# Altium integrated library Renesas Microcontroller H8SX.IntLib: 160 symbols (part 10 of 17)
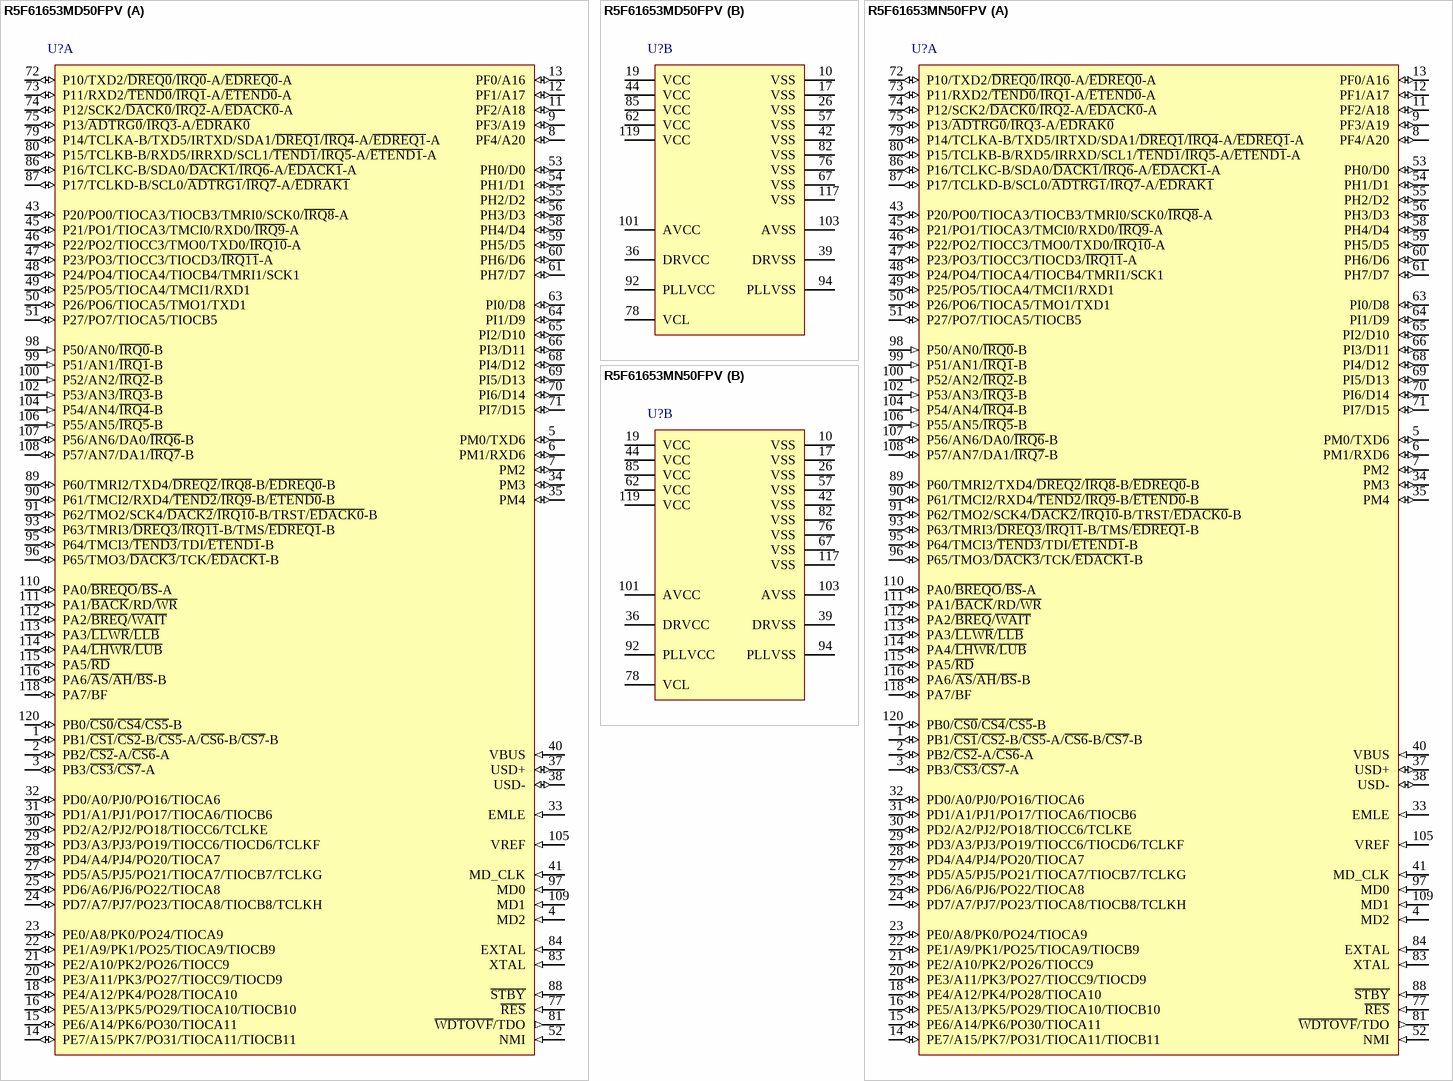
[diagram p99: symbols R5F61653MD50FPV to R5F61653MN50FPV]

## R5F61653MD50FPV
designator U?
Flash memory H8SX/1600 Series, 1658M Group MCU, 384K ROM, 40K RAM, FP-120B Pkg; Published: 28-Aug-2009; DatasheetVersion: Rev.2.00, Sep-2008; PackageVersion: Sep-2005; PackageReference: PLQP0120LA-A; Publisher: Altium Limited; PackageDescription: 120-Pin Plastic Low Profile QFP, 14 x 14 x 1.4 mm Body, 0.4 mm Pitch; Code_JEITA: P-LQFP120-14x14-0.40; ComponentLink1Description: Manufacturer Link; ComponentLink1URL: http://sg.renesas.com/fmwk.jsp?cnt=h8sx_family_landing.jsp&fp=/products/mpumcu/h8sx_family/; ComponentLink2Description: Datasheet; ComponentLink2URL: http://documentation.renesas.com/eng/products/mpumcu/rej09b0413_h8sx1658rhm.pdf; ComponentLink3Description: Packaging Specification; ComponentLink3URL: http://sg.renesas.com/media/products/common_info/package/pdf/ic/code/plqp0120la_a.pdf
footprint PLQP0120LA-A_N (Shrink QFP, 120-Leads, Body 14x14mm, Pitch 0.4mm, IPC Medium Density)
footprint PLQP0120LA-A_L (Shrink QFP, 120-Leads, Body 14x14mm, Pitch 0.4mm, IPC High Density)
footprint PLQP0120LA-A_M (Shrink QFP, 120-Leads, Body 14x14mm, Pitch 0.4mm, IPC Low Density)
part A pins: 1 PB1/~{CS1}/~{CS2}-B/~{CS5}-A/~{CS6}-B/~{CS7}-B (io), 2 PB2/~{CS2}-A/~{CS6}-A (io), 3 PB3/~{CS3}/~{CS7}-A (io), 4 MD2 (in), 5 PM0/TXD6 (io), 6 PM1/RXD6 (io), 7 PM2 (io), 8 PF4/A20 (io), 9 PF3/A19 (io), 11 PF2/A18 (io), 12 PF1/A17 (io), 13 PF0/A16 (io), 14 PE7/A15/PK7/PO31/TIOCA11/TIOCB11 (io), 15 PE6/A14/PK6/PO30/TIOCA11 (io), 16 PE5/A13/PK5/PO29/TIOCA10/TIOCB10 (io), 18 PE4/A12/PK4/PO28/TIOCA10 (io), 20 PE3/A11/PK3/PO27/TIOCC9/TIOCD9 (io), 21 PE2/A10/PK2/PO26/TIOCC9 (io), 22 PE1/A9/PK1/PO25/TIOCA9/TIOCB9 (io), 23 PE0/A8/PK0/PO24/TIOCA9 (io), 24 PD7/A7/PJ7/PO23/TIOCA8/TIOCB8/TCLKH (io), 25 PD6/A6/PJ6/PO22/TIOCA8 (io), 27 PD5/A5/PJ5/PO21/TIOCA7/TIOCB7/TCLKG (io), 28 PD4/A4/PJ4/PO20/TIOCA7 (io), 29 PD3/A3/PJ3/PO19/TIOCC6/TIOCD6/TCLKF (io), 30 PD2/A2/PJ2/PO18/TIOCC6/TCLKE (io), 31 PD1/A1/PJ1/PO17/TIOCA6/TIOCB6 (io), 32 PD0/A0/PJ0/PO16/TIOCA6 (io), 33 EMLE (in), 34 PM3 (io), 35 PM4 (io), 37 USD+ (io), 38 USD- (io), 40 VBUS (in), 41 MD_CLK (in), 43 P20/PO0/TIOCA3/TIOCB3/TMRI0/SCK0/~{IRQ8}-A (io), 45 P21/PO1/TIOCA3/TMCI0/RXD0/~{IRQ9}-A (io), 46 P22/PO2/TIOCC3/TMO0/TXD0/~{IRQ10}-A (io), 47 P23/PO3/TIOCC3/TIOCD3/~{IRQ11}-A (io), 48 P24/PO4/TIOCA4/TIOCB4/TMRI1/SCK1 (io), 49 P25/PO5/TIOCA4/TMCI1/RXD1 (io), 50 P26/PO6/TIOCA5/TMO1/TXD1 (io), 51 P27/PO7/TIOCA5/TIOCB5 (io), 52 NMI (in), 53 PH0/D0 (io), 54 PH1/D1 (io), 55 PH2/D2 (io), 56 PH3/D3 (io), 58 PH4/D4 (io), 59 PH5/D5 (io), 60 PH6/D6 (io), 61 PH7/D7 (io), 63 PI0/D8 (io), 64 PI1/D9 (io), 65 PI2/D10 (io), 66 PI3/D11 (io), 68 PI4/D12 (io), 69 PI5/D13 (io), 70 PI6/D14 (io), 71 PI7/D15 (io), 72 P10/TXD2/~{DREQ0}/~{IRQ0}-A/~{EDREQ0}-A (io), 73 P11/RXD2/~{TEND0}/~{IRQ1}-A/~{ETEND0}-A (io), 74 P12/SCK2/~{DACK0}/~{IRQ2}-A/~{EDACK0}-A (io), 75 P13/~{ADTRG0}/~{IRQ3}-A/~{EDRAK0} (io), 77 ~{RES} (in), 79 P14/TCLKA-B/TXD5/IRTXD/SDA1/~{DREQ1}/~{IRQ4}-A/~{EDREQ1}-A (io), 80 P15/TCLKB-B/RXD5/IRRXD/SCL1/~{TEND1}/~{IRQ5}-A/~{ETEND1}-A (io), 81 ~{WDTOVF}/TDO (out), 83 XTAL (in), 84 EXTAL (in), 86 P16/TCLKC-B/SDA0/~{DACK1}/~{IRQ6}-A/~{EDACK1}-A (io), 87 P17/TCLKD-B/SCL0/~{ADTRG1}/~{IRQ7}-A/~{EDRAK1} (io), 88 ~{STBY} (in), 89 P60/TMRI2/TXD4/~{DREQ2}/~{IRQ8}-B/~{EDREQ0}-B (io), 90 P61/TMCI2/RXD4/~{TEND2}/~{IRQ9}-B/~{ETEND0}-B (io), 91 P62/TMO2/SCK4/~{DACK2}/~{IRQ10}-B/TRST/~{EDACK0}-B (io), 93 P63/TMRI3/~{DREQ3}/~{IRQ11}-B/TMS/~{EDREQ1}-B (io), 95 P64/TMCI3/~{TEND3}/TDI/~{ETEND1}-B (io), 96 P65/TMO3/~{DACK3}/TCK/~{EDACK1}-B (io), 97 MD0 (in), 98 P50/AN0/~{IRQ0}-B (in), 99 P51/AN1/~{IRQ1}-B (in), 100 P52/AN2/~{IRQ2}-B (in), 102 P53/AN3/~{IRQ3}-B (in), 104 P54/AN4/~{IRQ4}-B (in), 105 VREF (in), 106 P55/AN5/~{IRQ5}-B (in), 107 P56/AN6/DA0/~{IRQ6}-B (io), 108 P57/AN7/DA1/~{IRQ7}-B (io), 109 MD1 (in), 110 PA0/~{BREQO}/~{BS}-A (io), 111 PA1/~{BACK}/RD/~{WR} (io), 112 PA2/~{BREQ}/~{WAIT} (io), 113 PA3/~{LLWR}/~{LLB} (io), 114 PA4/~{LHWR}/~{LUB} (io), 115 PA5/~{RD} (io), 116 PA6/~{AS}/~{AH}/~{BS}-B (io), 118 PA7/BF (io), 120 PB0/~{CS0}/~{CS4}/~{CS5}-B (io)
part B pins: 10 VSS (power), 17 VSS (power), 19 VCC (power), 26 VSS (power), 36 DRVCC (power), 39 DRVSS (power), 42 VSS (power), 44 VCC (power), 57 VSS (power), 62 VCC (power), 67 VSS (power), 76 VSS (power), 78 VCL, 82 VSS (power), 85 VCC (power), 92 PLLVCC (power), 94 PLLVSS (power), 101 AVCC (power), 103 AVSS (power), 117 VSS (power), 119 VCC (power)

## R5F61653MN50FPV
designator U?
Flash memory H8SX/1600 Series, 1658M Group MCU, 384K ROM, 40K RAM, FP-120B Pkg; Published: 28-Aug-2009; DatasheetVersion: Rev.2.00, Sep-2008; PackageVersion: Sep-2005; PackageReference: PLQP0120LA-A; Publisher: Altium Limited; PackageDescription: 120-Pin Plastic Low Profile QFP, 14 x 14 x 1.4 mm Body, 0.4 mm Pitch; Code_JEITA: P-LQFP120-14x14-0.40; ComponentLink1Description: Manufacturer Link; ComponentLink1URL: http://sg.renesas.com/fmwk.jsp?cnt=h8sx_family_landing.jsp&fp=/products/mpumcu/h8sx_family/; ComponentLink2Description: Datasheet; ComponentLink2URL: http://documentation.renesas.com/eng/products/mpumcu/rej09b0413_h8sx1658rhm.pdf; ComponentLink3Description: Packaging Specification; ComponentLink3URL: http://sg.renesas.com/media/products/common_info/package/pdf/ic/code/plqp0120la_a.pdf
footprint PLQP0120LA-A_N (Shrink QFP, 120-Leads, Body 14x14mm, Pitch 0.4mm, IPC Medium Density)
footprint PLQP0120LA-A_L (Shrink QFP, 120-Leads, Body 14x14mm, Pitch 0.4mm, IPC High Density)
footprint PLQP0120LA-A_M (Shrink QFP, 120-Leads, Body 14x14mm, Pitch 0.4mm, IPC Low Density)
part A pins: 1 PB1/~{CS1}/~{CS2}-B/~{CS5}-A/~{CS6}-B/~{CS7}-B (io), 2 PB2/~{CS2}-A/~{CS6}-A (io), 3 PB3/~{CS3}/~{CS7}-A (io), 4 MD2 (in), 5 PM0/TXD6 (io), 6 PM1/RXD6 (io), 7 PM2 (io), 8 PF4/A20 (io), 9 PF3/A19 (io), 11 PF2/A18 (io), 12 PF1/A17 (io), 13 PF0/A16 (io), 14 PE7/A15/PK7/PO31/TIOCA11/TIOCB11 (io), 15 PE6/A14/PK6/PO30/TIOCA11 (io), 16 PE5/A13/PK5/PO29/TIOCA10/TIOCB10 (io), 18 PE4/A12/PK4/PO28/TIOCA10 (io), 20 PE3/A11/PK3/PO27/TIOCC9/TIOCD9 (io), 21 PE2/A10/PK2/PO26/TIOCC9 (io), 22 PE1/A9/PK1/PO25/TIOCA9/TIOCB9 (io), 23 PE0/A8/PK0/PO24/TIOCA9 (io), 24 PD7/A7/PJ7/PO23/TIOCA8/TIOCB8/TCLKH (io), 25 PD6/A6/PJ6/PO22/TIOCA8 (io), 27 PD5/A5/PJ5/PO21/TIOCA7/TIOCB7/TCLKG (io), 28 PD4/A4/PJ4/PO20/TIOCA7 (io), 29 PD3/A3/PJ3/PO19/TIOCC6/TIOCD6/TCLKF (io), 30 PD2/A2/PJ2/PO18/TIOCC6/TCLKE (io), 31 PD1/A1/PJ1/PO17/TIOCA6/TIOCB6 (io), 32 PD0/A0/PJ0/PO16/TIOCA6 (io), 33 EMLE (in), 34 PM3 (io), 35 PM4 (io), 37 USD+ (io), 38 USD- (io), 40 VBUS (in), 41 MD_CLK (in), 43 P20/PO0/TIOCA3/TIOCB3/TMRI0/SCK0/~{IRQ8}-A (io), 45 P21/PO1/TIOCA3/TMCI0/RXD0/~{IRQ9}-A (io), 46 P22/PO2/TIOCC3/TMO0/TXD0/~{IRQ10}-A (io), 47 P23/PO3/TIOCC3/TIOCD3/~{IRQ11}-A (io), 48 P24/PO4/TIOCA4/TIOCB4/TMRI1/SCK1 (io), 49 P25/PO5/TIOCA4/TMCI1/RXD1 (io), 50 P26/PO6/TIOCA5/TMO1/TXD1 (io), 51 P27/PO7/TIOCA5/TIOCB5 (io), 52 NMI (in), 53 PH0/D0 (io), 54 PH1/D1 (io), 55 PH2/D2 (io), 56 PH3/D3 (io), 58 PH4/D4 (io), 59 PH5/D5 (io), 60 PH6/D6 (io), 61 PH7/D7 (io), 63 PI0/D8 (io), 64 PI1/D9 (io), 65 PI2/D10 (io), 66 PI3/D11 (io), 68 PI4/D12 (io), 69 PI5/D13 (io), 70 PI6/D14 (io), 71 PI7/D15 (io), 72 P10/TXD2/~{DREQ0}/~{IRQ0}-A/~{EDREQ0}-A (io), 73 P11/RXD2/~{TEND0}/~{IRQ1}-A/~{ETEND0}-A (io), 74 P12/SCK2/~{DACK0}/~{IRQ2}-A/~{EDACK0}-A (io), 75 P13/~{ADTRG0}/~{IRQ3}-A/~{EDRAK0} (io), 77 ~{RES} (in), 79 P14/TCLKA-B/TXD5/IRTXD/SDA1/~{DREQ1}/~{IRQ4}-A/~{EDREQ1}-A (io), 80 P15/TCLKB-B/RXD5/IRRXD/SCL1/~{TEND1}/~{IRQ5}-A/~{ETEND1}-A (io), 81 ~{WDTOVF}/TDO (out), 83 XTAL (in), 84 EXTAL (in), 86 P16/TCLKC-B/SDA0/~{DACK1}/~{IRQ6}-A/~{EDACK1}-A (io), 87 P17/TCLKD-B/SCL0/~{ADTRG1}/~{IRQ7}-A/~{EDRAK1} (io), 88 ~{STBY} (in), 89 P60/TMRI2/TXD4/~{DREQ2}/~{IRQ8}-B/~{EDREQ0}-B (io), 90 P61/TMCI2/RXD4/~{TEND2}/~{IRQ9}-B/~{ETEND0}-B (io), 91 P62/TMO2/SCK4/~{DACK2}/~{IRQ10}-B/TRST/~{EDACK0}-B (io), 93 P63/TMRI3/~{DREQ3}/~{IRQ11}-B/TMS/~{EDREQ1}-B (io), 95 P64/TMCI3/~{TEND3}/TDI/~{ETEND1}-B (io), 96 P65/TMO3/~{DACK3}/TCK/~{EDACK1}-B (io), 97 MD0 (in), 98 P50/AN0/~{IRQ0}-B (in), 99 P51/AN1/~{IRQ1}-B (in), 100 P52/AN2/~{IRQ2}-B (in), 102 P53/AN3/~{IRQ3}-B (in), 104 P54/AN4/~{IRQ4}-B (in), 105 VREF (in), 106 P55/AN5/~{IRQ5}-B (in), 107 P56/AN6/DA0/~{IRQ6}-B (io), 108 P57/AN7/DA1/~{IRQ7}-B (io), 109 MD1 (in), 110 PA0/~{BREQO}/~{BS}-A (io), 111 PA1/~{BACK}/RD/~{WR} (io), 112 PA2/~{BREQ}/~{WAIT} (io), 113 PA3/~{LLWR}/~{LLB} (io), 114 PA4/~{LHWR}/~{LUB} (io), 115 PA5/~{RD} (io), 116 PA6/~{AS}/~{AH}/~{BS}-B (io), 118 PA7/BF (io), 120 PB0/~{CS0}/~{CS4}/~{CS5}-B (io)
part B pins: 10 VSS (power), 17 VSS (power), 19 VCC (power), 26 VSS (power), 36 DRVCC (power), 39 DRVSS (power), 42 VSS (power), 44 VCC (power), 57 VSS (power), 62 VCC (power), 67 VSS (power), 76 VSS (power), 78 VCL, 82 VSS (power), 85 VCC (power), 92 PLLVCC (power), 94 PLLVSS (power), 101 AVCC (power), 103 AVSS (power), 117 VSS (power), 119 VCC (power)

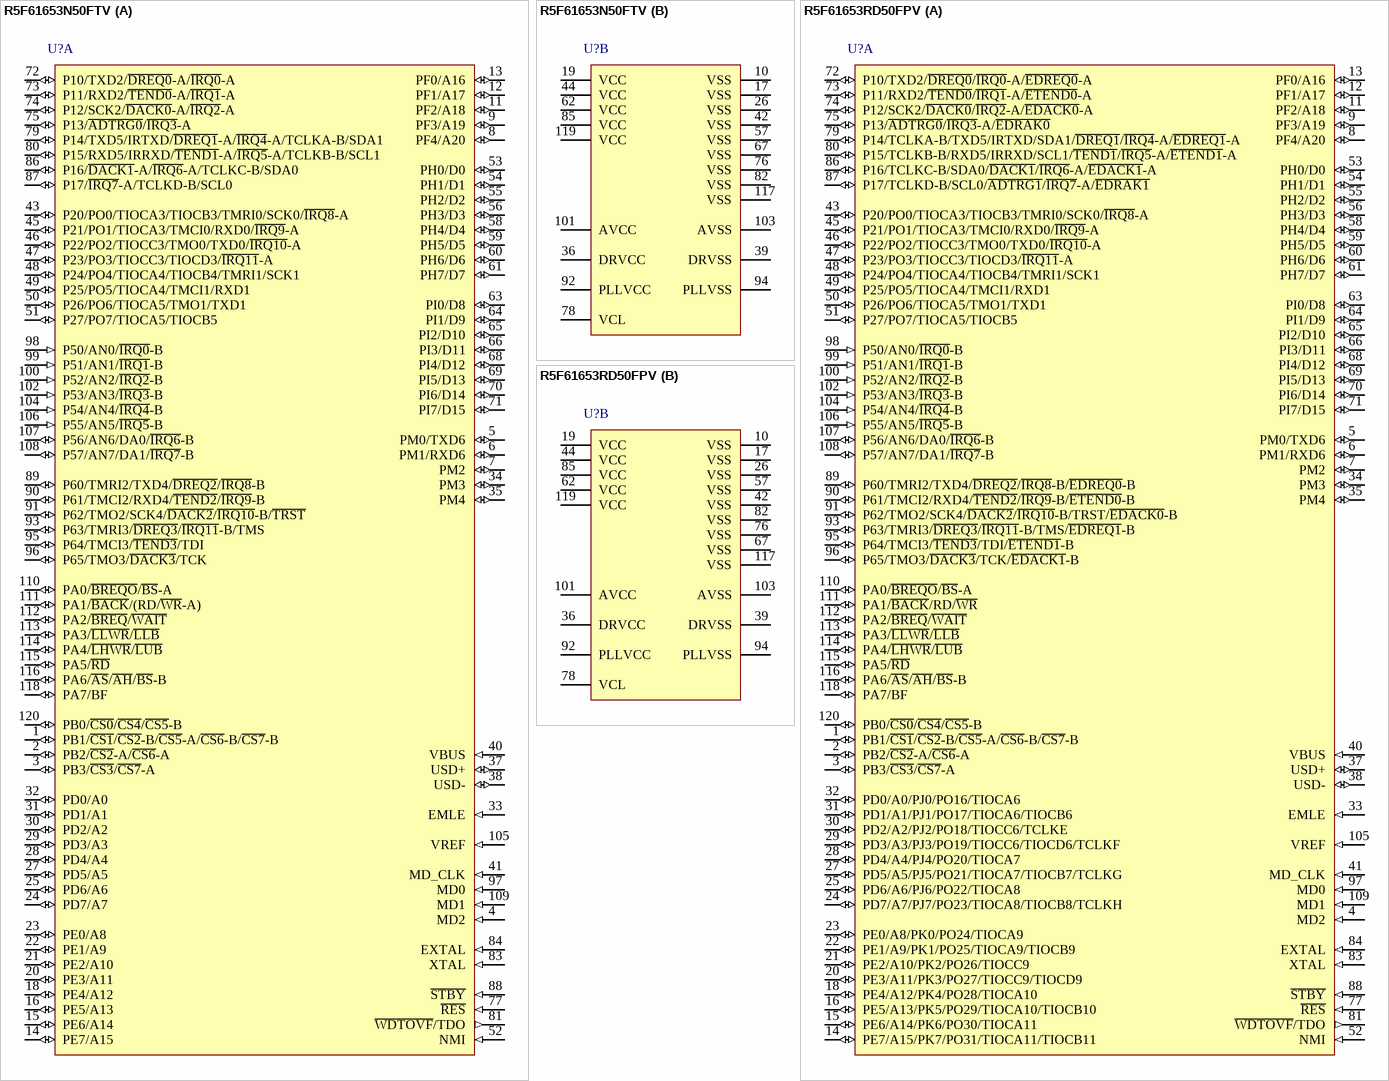
[diagram p50: symbols R5F61653N50FTV to R5F61653RD50FPV]

## R5F61653N50FTV
designator U?
Flash memory H8SX/1600 Series, 1653 Group MCU, 384K ROM, 40K RAM, TFP-120 Pkg; Published: 28-Aug-2009; DatasheetVersion: Rev.1.00, Sep-2005; PackageVersion: Sep-2005; PackageReference: PTQP0120LA-A; Publisher: Altium Limited; PackageDescription: 120-Pin Plastic Thin QFP, 14 x 14 x 1.0 mm Body, 0.4 mm Pitch; Code_JEITA: P-TQFP120-14x14-0.40; ComponentLink1Description: Manufacturer Link; ComponentLink1URL: http://sg.renesas.com/fmwk.jsp?cnt=h8sx_family_landing.jsp&fp=/products/mpumcu/h8sx_family/; ComponentLink2Description: Datasheet; ComponentLink2URL: http://documentation.renesas.com/eng/products/mpumcu/rej09b0219_h8sx1653hm.pdf; ComponentLink3Description: Packaging Specification; ComponentLink3URL: http://sg.renesas.com/media/products/common_info/package/pdf/ic/code/ptqp0120la_a.pdf
footprint PTQP0120LA-A_N (Thin QFP, 120-Leads, Body 14x14mm, Pitch 0.4mm, IPC Medium Density)
footprint PTQP0120LA-A_L (Thin QFP, 120-Leads, Body 14x14mm, Pitch 0.4mm, IPC High Density)
footprint PTQP0120LA-A_M (Thin QFP, 120-Leads, Body 14x14mm, Pitch 0.4mm, IPC Low Density)
part A pins: 1 PB1/~{CS1}/~{CS2}-B/~{CS5}-A/~{CS6}-B/~{CS7}-B (io), 2 PB2/~{CS2}-A/~{CS6}-A (io), 3 PB3/~{CS3}/~{CS7}-A (io), 4 MD2 (in), 5 PM0/TXD6 (io), 6 PM1/RXD6 (io), 7 PM2 (io), 8 PF4/A20 (io), 9 PF3/A19 (io), 11 PF2/A18 (io), 12 PF1/A17 (io), 13 PF0/A16 (io), 14 PE7/A15 (io), 15 PE6/A14 (io), 16 PE5/A13 (io), 18 PE4/A12 (io), 20 PE3/A11 (io), 21 PE2/A10 (io), 22 PE1/A9 (io), 23 PE0/A8 (io), 24 PD7/A7 (io), 25 PD6/A6 (io), 27 PD5/A5 (io), 28 PD4/A4 (io), 29 PD3/A3 (io), 30 PD2/A2 (io), 31 PD1/A1 (io), 32 PD0/A0 (io), 33 EMLE (in), 34 PM3 (io), 35 PM4 (io), 37 USD+ (io), 38 USD- (io), 40 VBUS (in), 41 MD_CLK (in), 43 P20/PO0/TIOCA3/TIOCB3/TMRI0/SCK0/~{IRQ8}-A (io), 45 P21/PO1/TIOCA3/TMCI0/RXD0/~{IRQ9}-A (io), 46 P22/PO2/TIOCC3/TMO0/TXD0/~{IRQ10}-A (io), 47 P23/PO3/TIOCC3/TIOCD3/~{IRQ11}-A (io), 48 P24/PO4/TIOCA4/TIOCB4/TMRI1/SCK1 (io), 49 P25/PO5/TIOCA4/TMCI1/RXD1 (io), 50 P26/PO6/TIOCA5/TMO1/TXD1 (io), 51 P27/PO7/TIOCA5/TIOCB5 (io), 52 NMI (in), 53 PH0/D0 (io), 54 PH1/D1 (io), 55 PH2/D2 (io), 56 PH3/D3 (io), 58 PH4/D4 (io), 59 PH5/D5 (io), 60 PH6/D6 (io), 61 PH7/D7 (io), 63 PI0/D8 (io), 64 PI1/D9 (io), 65 PI2/D10 (io), 66 PI3/D11 (io), 68 PI4/D12 (io), 69 PI5/D13 (io), 70 PI6/D14 (io), 71 PI7/D15 (io), 72 P10/TXD2/~{DREQ0}-A/~{IRQ0}-A (io), 73 P11/RXD2/~{TEND0}-A/~{IRQ1}-A (io), 74 P12/SCK2/~{DACK0}-A/~{IRQ2}-A (io), 75 P13/~{ADTRG0}/~{IRQ3}-A (io), 77 ~{RES} (in), 79 P14/TXD5/IRTXD/~{DREQ1}-A/~{IRQ4}-A/TCLKA-B/SDA1 (io), 80 P15/RXD5/IRRXD/~{TEND1}-A/~{IRQ5}-A/TCLKB-B/SCL1 (io), 81 ~{WDTOVF}/TDO (out), 83 XTAL (in), 84 EXTAL (in), 86 P16/~{DACK1}-A/~{IRQ6}-A/TCLKC-B/SDA0 (io), 87 P17/~{IRQ7}-A/TCLKD-B/SCL0 (io), 88 ~{STBY} (in), 89 P60/TMRI2/TXD4/~{DREQ2}/~{IRQ8}-B (io), 90 P61/TMCI2/RXD4/~{TEND2}/~{IRQ9}-B (io), 91 P62/TMO2/SCK4/~{DACK2}/~{IRQ10}-B/~{TRST} (io), 93 P63/TMRI3/~{DREQ3}/~{IRQ11}-B/TMS (io), 95 P64/TMCI3/~{TEND3}/TDI (io), 96 P65/TMO3/~{DACK3}/TCK (io), 97 MD0 (in), 98 P50/AN0/~{IRQ0}-B (in), 99 P51/AN1/~{IRQ1}-B (in), 100 P52/AN2/~{IRQ2}-B (in), 102 P53/AN3/~{IRQ3}-B (in), 104 P54/AN4/~{IRQ4}-B (in), 105 VREF (in), 106 P55/AN5/~{IRQ5}-B (in), 107 P56/AN6/DA0/~{IRQ6}-B (io), 108 P57/AN7/DA1/~{IRQ7}-B (io), 109 MD1 (in), 110 PA0/~{BREQO}/~{BS}-A (io), 111 PA1/~{BACK}/(RD/~{WR}-A) (io), 112 PA2/~{BREQ}/~{WAIT} (io), 113 PA3/~{LLWR}/~{LLB} (io), 114 PA4/~{LHWR}/~{LUB} (io), 115 PA5/~{RD} (io), 116 PA6/~{AS}/~{AH}/~{BS}-B (io), 118 PA7/BF (io), 120 PB0/~{CS0}/~{CS4}/~{CS5}-B (io)
part B pins: 10 VSS (power), 17 VSS (power), 19 VCC (power), 26 VSS (power), 36 DRVCC (power), 39 DRVSS (power), 42 VSS (power), 44 VCC (power), 57 VSS (power), 62 VCC (power), 67 VSS (power), 76 VSS (power), 78 VCL, 82 VSS (power), 85 VCC (power), 92 PLLVCC (power), 94 PLLVSS (power), 101 AVCC (power), 103 AVSS (power), 117 VSS (power), 119 VCC (power)

## R5F61653RD50FPV
designator U?
Flash memory H8SX/1600 Series, 1658R Group MCU, 384K ROM, 40K RAM, FP-120B Pkg; Published: 28-Aug-2009; DatasheetVersion: Rev.2.00, Sep-2008; PackageVersion: Sep-2005; PackageReference: PLQP0120LA-A; Publisher: Altium Limited; PackageDescription: 120-Pin Plastic Low Profile QFP, 14 x 14 x 1.4 mm Body, 0.4 mm Pitch; Code_JEITA: P-LQFP120-14x14-0.40; ComponentLink1Description: Manufacturer Link; ComponentLink1URL: http://sg.renesas.com/fmwk.jsp?cnt=h8sx_family_landing.jsp&fp=/products/mpumcu/h8sx_family/; ComponentLink2Description: Datasheet; ComponentLink2URL: http://documentation.renesas.com/eng/products/mpumcu/rej09b0413_h8sx1658rhm.pdf; ComponentLink3Description: Packaging Specification; ComponentLink3URL: http://sg.renesas.com/media/products/common_info/package/pdf/ic/code/plqp0120la_a.pdf
footprint PLQP0120LA-A_N (Shrink QFP, 120-Leads, Body 14x14mm, Pitch 0.4mm, IPC Medium Density)
footprint PLQP0120LA-A_L (Shrink QFP, 120-Leads, Body 14x14mm, Pitch 0.4mm, IPC High Density)
footprint PLQP0120LA-A_M (Shrink QFP, 120-Leads, Body 14x14mm, Pitch 0.4mm, IPC Low Density)
part A pins: 1 PB1/~{CS1}/~{CS2}-B/~{CS5}-A/~{CS6}-B/~{CS7}-B (io), 2 PB2/~{CS2}-A/~{CS6}-A (io), 3 PB3/~{CS3}/~{CS7}-A (io), 4 MD2 (in), 5 PM0/TXD6 (io), 6 PM1/RXD6 (io), 7 PM2 (io), 8 PF4/A20 (io), 9 PF3/A19 (io), 11 PF2/A18 (io), 12 PF1/A17 (io), 13 PF0/A16 (io), 14 PE7/A15/PK7/PO31/TIOCA11/TIOCB11 (io), 15 PE6/A14/PK6/PO30/TIOCA11 (io), 16 PE5/A13/PK5/PO29/TIOCA10/TIOCB10 (io), 18 PE4/A12/PK4/PO28/TIOCA10 (io), 20 PE3/A11/PK3/PO27/TIOCC9/TIOCD9 (io), 21 PE2/A10/PK2/PO26/TIOCC9 (io), 22 PE1/A9/PK1/PO25/TIOCA9/TIOCB9 (io), 23 PE0/A8/PK0/PO24/TIOCA9 (io), 24 PD7/A7/PJ7/PO23/TIOCA8/TIOCB8/TCLKH (io), 25 PD6/A6/PJ6/PO22/TIOCA8 (io), 27 PD5/A5/PJ5/PO21/TIOCA7/TIOCB7/TCLKG (io), 28 PD4/A4/PJ4/PO20/TIOCA7 (io), 29 PD3/A3/PJ3/PO19/TIOCC6/TIOCD6/TCLKF (io), 30 PD2/A2/PJ2/PO18/TIOCC6/TCLKE (io), 31 PD1/A1/PJ1/PO17/TIOCA6/TIOCB6 (io), 32 PD0/A0/PJ0/PO16/TIOCA6 (io), 33 EMLE (in), 34 PM3 (io), 35 PM4 (io), 37 USD+ (io), 38 USD- (io), 40 VBUS (in), 41 MD_CLK (in), 43 P20/PO0/TIOCA3/TIOCB3/TMRI0/SCK0/~{IRQ8}-A (io), 45 P21/PO1/TIOCA3/TMCI0/RXD0/~{IRQ9}-A (io), 46 P22/PO2/TIOCC3/TMO0/TXD0/~{IRQ10}-A (io), 47 P23/PO3/TIOCC3/TIOCD3/~{IRQ11}-A (io), 48 P24/PO4/TIOCA4/TIOCB4/TMRI1/SCK1 (io), 49 P25/PO5/TIOCA4/TMCI1/RXD1 (io), 50 P26/PO6/TIOCA5/TMO1/TXD1 (io), 51 P27/PO7/TIOCA5/TIOCB5 (io), 52 NMI (in), 53 PH0/D0 (io), 54 PH1/D1 (io), 55 PH2/D2 (io), 56 PH3/D3 (io), 58 PH4/D4 (io), 59 PH5/D5 (io), 60 PH6/D6 (io), 61 PH7/D7 (io), 63 PI0/D8 (io), 64 PI1/D9 (io), 65 PI2/D10 (io), 66 PI3/D11 (io), 68 PI4/D12 (io), 69 PI5/D13 (io), 70 PI6/D14 (io), 71 PI7/D15 (io), 72 P10/TXD2/~{DREQ0}/~{IRQ0}-A/~{EDREQ0}-A (io), 73 P11/RXD2/~{TEND0}/~{IRQ1}-A/~{ETEND0}-A (io), 74 P12/SCK2/~{DACK0}/~{IRQ2}-A/~{EDACK0}-A (io), 75 P13/~{ADTRG0}/~{IRQ3}-A/~{EDRAK0} (io), 77 ~{RES} (in), 79 P14/TCLKA-B/TXD5/IRTXD/SDA1/~{DREQ1}/~{IRQ4}-A/~{EDREQ1}-A (io), 80 P15/TCLKB-B/RXD5/IRRXD/SCL1/~{TEND1}/~{IRQ5}-A/~{ETEND1}-A (io), 81 ~{WDTOVF}/TDO (out), 83 XTAL (in), 84 EXTAL (in), 86 P16/TCLKC-B/SDA0/~{DACK1}/~{IRQ6}-A/~{EDACK1}-A (io), 87 P17/TCLKD-B/SCL0/~{ADTRG1}/~{IRQ7}-A/~{EDRAK1} (io), 88 ~{STBY} (in), 89 P60/TMRI2/TXD4/~{DREQ2}/~{IRQ8}-B/~{EDREQ0}-B (io), 90 P61/TMCI2/RXD4/~{TEND2}/~{IRQ9}-B/~{ETEND0}-B (io), 91 P62/TMO2/SCK4/~{DACK2}/~{IRQ10}-B/TRST/~{EDACK0}-B (io), 93 P63/TMRI3/~{DREQ3}/~{IRQ11}-B/TMS/~{EDREQ1}-B (io), 95 P64/TMCI3/~{TEND3}/TDI/~{ETEND1}-B (io), 96 P65/TMO3/~{DACK3}/TCK/~{EDACK1}-B (io), 97 MD0 (in), 98 P50/AN0/~{IRQ0}-B (in), 99 P51/AN1/~{IRQ1}-B (in), 100 P52/AN2/~{IRQ2}-B (in), 102 P53/AN3/~{IRQ3}-B (in), 104 P54/AN4/~{IRQ4}-B (in), 105 VREF (in), 106 P55/AN5/~{IRQ5}-B (in), 107 P56/AN6/DA0/~{IRQ6}-B (io), 108 P57/AN7/DA1/~{IRQ7}-B (io), 109 MD1 (in), 110 PA0/~{BREQO}/~{BS}-A (io), 111 PA1/~{BACK}/RD/~{WR} (io), 112 PA2/~{BREQ}/~{WAIT} (io), 113 PA3/~{LLWR}/~{LLB} (io), 114 PA4/~{LHWR}/~{LUB} (io), 115 PA5/~{RD} (io), 116 PA6/~{AS}/~{AH}/~{BS}-B (io), 118 PA7/BF (io), 120 PB0/~{CS0}/~{CS4}/~{CS5}-B (io)
part B pins: 10 VSS (power), 17 VSS (power), 19 VCC (power), 26 VSS (power), 36 DRVCC (power), 39 DRVSS (power), 42 VSS (power), 44 VCC (power), 57 VSS (power), 62 VCC (power), 67 VSS (power), 76 VSS (power), 78 VCL, 82 VSS (power), 85 VCC (power), 92 PLLVCC (power), 94 PLLVSS (power), 101 AVCC (power), 103 AVSS (power), 117 VSS (power), 119 VCC (power)

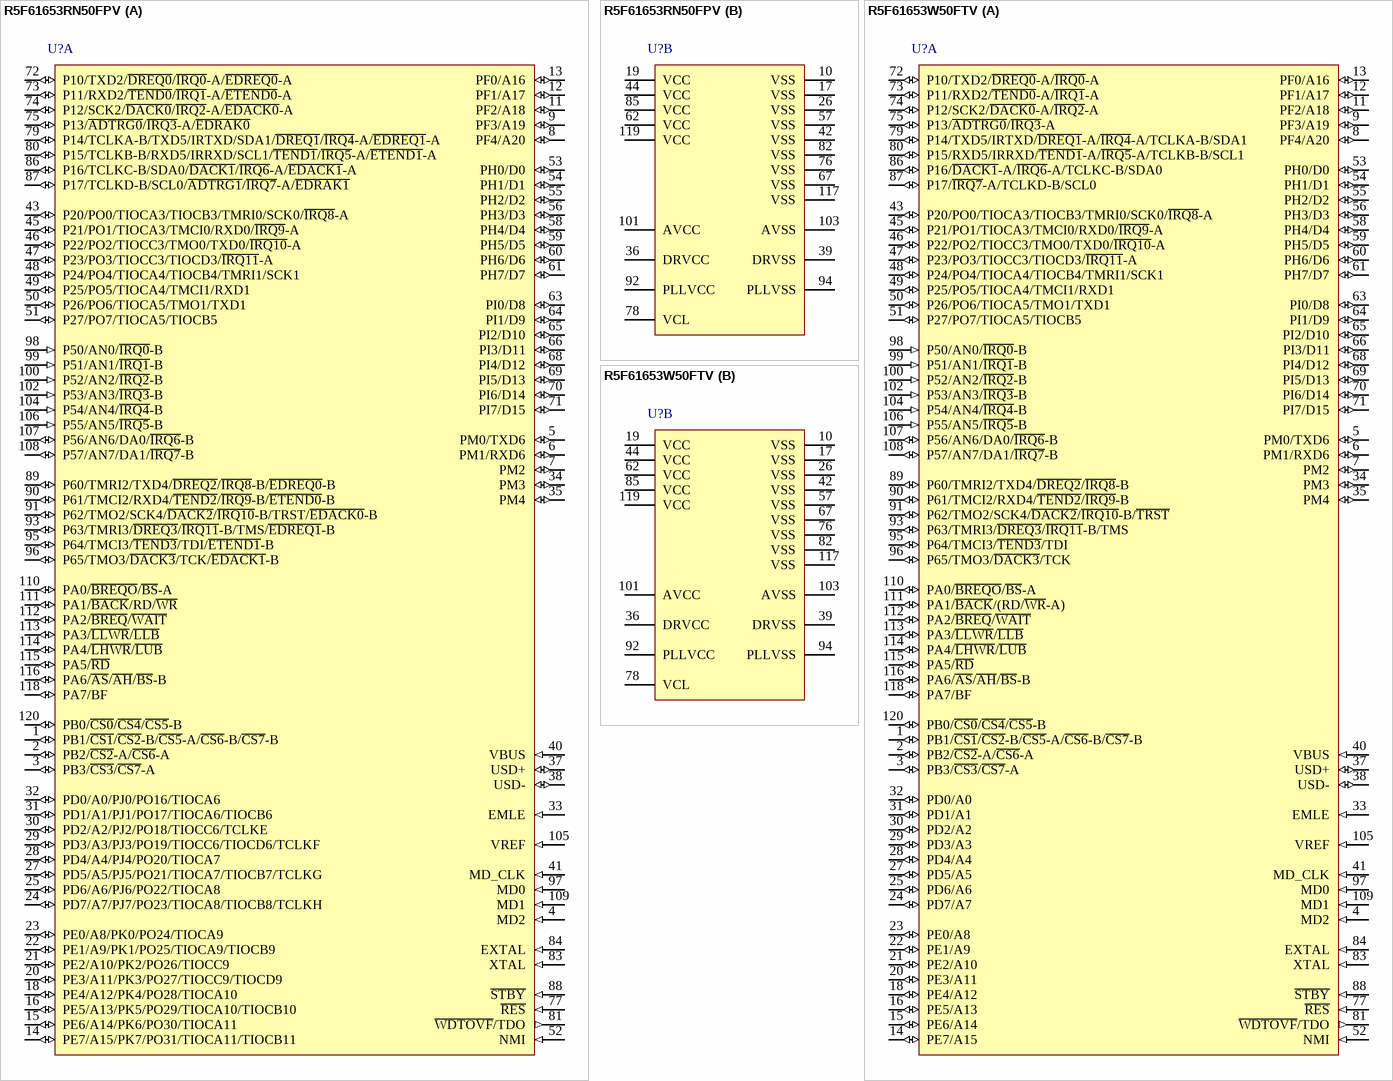
[diagram p51: symbols R5F61653RN50FPV to R5F61653W50FTV]

## R5F61653RN50FPV
designator U?
Flash memory H8SX/1600 Series, 1658R Group MCU, 384K ROM, 40K RAM, FP-120B Pkg; Published: 28-Aug-2009; DatasheetVersion: Rev.2.00, Sep-2008; PackageVersion: Sep-2005; PackageReference: PLQP0120LA-A; Publisher: Altium Limited; PackageDescription: 120-Pin Plastic Low Profile QFP, 14 x 14 x 1.4 mm Body, 0.4 mm Pitch; Supplier 1: Digi-Key; Supplier Part Number 1: R5F61653RN50FPV-ND; Code_JEITA: P-LQFP120-14x14-0.40; ComponentLink1Description: Manufacturer Link; ComponentLink1URL: http://sg.renesas.com/fmwk.jsp?cnt=h8sx_family_landing.jsp&fp=/products/mpumcu/h8sx_family/; ComponentLink2Description: Datasheet; ComponentLink2URL: http://documentation.renesas.com/eng/products/mpumcu/rej09b0413_h8sx1658rhm.pdf; ComponentLink3Description: Packaging Specification; ComponentLink3URL: http://sg.renesas.com/media/products/common_info/package/pdf/ic/code/plqp0120la_a.pdf
footprint PLQP0120LA-A_N (Shrink QFP, 120-Leads, Body 14x14mm, Pitch 0.4mm, IPC Medium Density)
footprint PLQP0120LA-A_L (Shrink QFP, 120-Leads, Body 14x14mm, Pitch 0.4mm, IPC High Density)
footprint PLQP0120LA-A_M (Shrink QFP, 120-Leads, Body 14x14mm, Pitch 0.4mm, IPC Low Density)
part A pins: 1 PB1/~{CS1}/~{CS2}-B/~{CS5}-A/~{CS6}-B/~{CS7}-B (io), 2 PB2/~{CS2}-A/~{CS6}-A (io), 3 PB3/~{CS3}/~{CS7}-A (io), 4 MD2 (in), 5 PM0/TXD6 (io), 6 PM1/RXD6 (io), 7 PM2 (io), 8 PF4/A20 (io), 9 PF3/A19 (io), 11 PF2/A18 (io), 12 PF1/A17 (io), 13 PF0/A16 (io), 14 PE7/A15/PK7/PO31/TIOCA11/TIOCB11 (io), 15 PE6/A14/PK6/PO30/TIOCA11 (io), 16 PE5/A13/PK5/PO29/TIOCA10/TIOCB10 (io), 18 PE4/A12/PK4/PO28/TIOCA10 (io), 20 PE3/A11/PK3/PO27/TIOCC9/TIOCD9 (io), 21 PE2/A10/PK2/PO26/TIOCC9 (io), 22 PE1/A9/PK1/PO25/TIOCA9/TIOCB9 (io), 23 PE0/A8/PK0/PO24/TIOCA9 (io), 24 PD7/A7/PJ7/PO23/TIOCA8/TIOCB8/TCLKH (io), 25 PD6/A6/PJ6/PO22/TIOCA8 (io), 27 PD5/A5/PJ5/PO21/TIOCA7/TIOCB7/TCLKG (io), 28 PD4/A4/PJ4/PO20/TIOCA7 (io), 29 PD3/A3/PJ3/PO19/TIOCC6/TIOCD6/TCLKF (io), 30 PD2/A2/PJ2/PO18/TIOCC6/TCLKE (io), 31 PD1/A1/PJ1/PO17/TIOCA6/TIOCB6 (io), 32 PD0/A0/PJ0/PO16/TIOCA6 (io), 33 EMLE (in), 34 PM3 (io), 35 PM4 (io), 37 USD+ (io), 38 USD- (io), 40 VBUS (in), 41 MD_CLK (in), 43 P20/PO0/TIOCA3/TIOCB3/TMRI0/SCK0/~{IRQ8}-A (io), 45 P21/PO1/TIOCA3/TMCI0/RXD0/~{IRQ9}-A (io), 46 P22/PO2/TIOCC3/TMO0/TXD0/~{IRQ10}-A (io), 47 P23/PO3/TIOCC3/TIOCD3/~{IRQ11}-A (io), 48 P24/PO4/TIOCA4/TIOCB4/TMRI1/SCK1 (io), 49 P25/PO5/TIOCA4/TMCI1/RXD1 (io), 50 P26/PO6/TIOCA5/TMO1/TXD1 (io), 51 P27/PO7/TIOCA5/TIOCB5 (io), 52 NMI (in), 53 PH0/D0 (io), 54 PH1/D1 (io), 55 PH2/D2 (io), 56 PH3/D3 (io), 58 PH4/D4 (io), 59 PH5/D5 (io), 60 PH6/D6 (io), 61 PH7/D7 (io), 63 PI0/D8 (io), 64 PI1/D9 (io), 65 PI2/D10 (io), 66 PI3/D11 (io), 68 PI4/D12 (io), 69 PI5/D13 (io), 70 PI6/D14 (io), 71 PI7/D15 (io), 72 P10/TXD2/~{DREQ0}/~{IRQ0}-A/~{EDREQ0}-A (io), 73 P11/RXD2/~{TEND0}/~{IRQ1}-A/~{ETEND0}-A (io), 74 P12/SCK2/~{DACK0}/~{IRQ2}-A/~{EDACK0}-A (io), 75 P13/~{ADTRG0}/~{IRQ3}-A/~{EDRAK0} (io), 77 ~{RES} (in), 79 P14/TCLKA-B/TXD5/IRTXD/SDA1/~{DREQ1}/~{IRQ4}-A/~{EDREQ1}-A (io), 80 P15/TCLKB-B/RXD5/IRRXD/SCL1/~{TEND1}/~{IRQ5}-A/~{ETEND1}-A (io), 81 ~{WDTOVF}/TDO (out), 83 XTAL (in), 84 EXTAL (in), 86 P16/TCLKC-B/SDA0/~{DACK1}/~{IRQ6}-A/~{EDACK1}-A (io), 87 P17/TCLKD-B/SCL0/~{ADTRG1}/~{IRQ7}-A/~{EDRAK1} (io), 88 ~{STBY} (in), 89 P60/TMRI2/TXD4/~{DREQ2}/~{IRQ8}-B/~{EDREQ0}-B (io), 90 P61/TMCI2/RXD4/~{TEND2}/~{IRQ9}-B/~{ETEND0}-B (io), 91 P62/TMO2/SCK4/~{DACK2}/~{IRQ10}-B/TRST/~{EDACK0}-B (io), 93 P63/TMRI3/~{DREQ3}/~{IRQ11}-B/TMS/~{EDREQ1}-B (io), 95 P64/TMCI3/~{TEND3}/TDI/~{ETEND1}-B (io), 96 P65/TMO3/~{DACK3}/TCK/~{EDACK1}-B (io), 97 MD0 (in), 98 P50/AN0/~{IRQ0}-B (in), 99 P51/AN1/~{IRQ1}-B (in), 100 P52/AN2/~{IRQ2}-B (in), 102 P53/AN3/~{IRQ3}-B (in), 104 P54/AN4/~{IRQ4}-B (in), 105 VREF (in), 106 P55/AN5/~{IRQ5}-B (in), 107 P56/AN6/DA0/~{IRQ6}-B (io), 108 P57/AN7/DA1/~{IRQ7}-B (io), 109 MD1 (in), 110 PA0/~{BREQO}/~{BS}-A (io), 111 PA1/~{BACK}/RD/~{WR} (io), 112 PA2/~{BREQ}/~{WAIT} (io), 113 PA3/~{LLWR}/~{LLB} (io), 114 PA4/~{LHWR}/~{LUB} (io), 115 PA5/~{RD} (io), 116 PA6/~{AS}/~{AH}/~{BS}-B (io), 118 PA7/BF (io), 120 PB0/~{CS0}/~{CS4}/~{CS5}-B (io)
part B pins: 10 VSS (power), 17 VSS (power), 19 VCC (power), 26 VSS (power), 36 DRVCC (power), 39 DRVSS (power), 42 VSS (power), 44 VCC (power), 57 VSS (power), 62 VCC (power), 67 VSS (power), 76 VSS (power), 78 VCL, 82 VSS (power), 85 VCC (power), 92 PLLVCC (power), 94 PLLVSS (power), 101 AVCC (power), 103 AVSS (power), 117 VSS (power), 119 VCC (power)

## R5F61653W50FTV
designator U?
Flash memory H8SX/1600 Series, 1653 Group MCU, 384K ROM, 40K RAM, TFP-120 Pkg; Published: 28-Aug-2009; DatasheetVersion: Rev.1.00, Sep-2005; PackageVersion: Sep-2005; PackageReference: PTQP0120LA-A; Publisher: Altium Limited; PackageDescription: 120-Pin Plastic Thin QFP, 14 x 14 x 1.0 mm Body, 0.4 mm Pitch; Code_JEITA: P-TQFP120-14x14-0.40; ComponentLink1Description: Manufacturer Link; ComponentLink1URL: http://sg.renesas.com/fmwk.jsp?cnt=h8sx_family_landing.jsp&fp=/products/mpumcu/h8sx_family/; ComponentLink2Description: Datasheet; ComponentLink2URL: http://documentation.renesas.com/eng/products/mpumcu/rej09b0219_h8sx1653hm.pdf; ComponentLink3Description: Packaging Specification; ComponentLink3URL: http://sg.renesas.com/media/products/common_info/package/pdf/ic/code/ptqp0120la_a.pdf
footprint PTQP0120LA-A_N (Thin QFP, 120-Leads, Body 14x14mm, Pitch 0.4mm, IPC Medium Density)
footprint PTQP0120LA-A_L (Thin QFP, 120-Leads, Body 14x14mm, Pitch 0.4mm, IPC High Density)
footprint PTQP0120LA-A_M (Thin QFP, 120-Leads, Body 14x14mm, Pitch 0.4mm, IPC Low Density)
part A pins: 1 PB1/~{CS1}/~{CS2}-B/~{CS5}-A/~{CS6}-B/~{CS7}-B (io), 2 PB2/~{CS2}-A/~{CS6}-A (io), 3 PB3/~{CS3}/~{CS7}-A (io), 4 MD2 (in), 5 PM0/TXD6 (io), 6 PM1/RXD6 (io), 7 PM2 (io), 8 PF4/A20 (io), 9 PF3/A19 (io), 11 PF2/A18 (io), 12 PF1/A17 (io), 13 PF0/A16 (io), 14 PE7/A15 (io), 15 PE6/A14 (io), 16 PE5/A13 (io), 18 PE4/A12 (io), 20 PE3/A11 (io), 21 PE2/A10 (io), 22 PE1/A9 (io), 23 PE0/A8 (io), 24 PD7/A7 (io), 25 PD6/A6 (io), 27 PD5/A5 (io), 28 PD4/A4 (io), 29 PD3/A3 (io), 30 PD2/A2 (io), 31 PD1/A1 (io), 32 PD0/A0 (io), 33 EMLE (in), 34 PM3 (io), 35 PM4 (io), 37 USD+ (io), 38 USD- (io), 40 VBUS (in), 41 MD_CLK (in), 43 P20/PO0/TIOCA3/TIOCB3/TMRI0/SCK0/~{IRQ8}-A (io), 45 P21/PO1/TIOCA3/TMCI0/RXD0/~{IRQ9}-A (io), 46 P22/PO2/TIOCC3/TMO0/TXD0/~{IRQ10}-A (io), 47 P23/PO3/TIOCC3/TIOCD3/~{IRQ11}-A (io), 48 P24/PO4/TIOCA4/TIOCB4/TMRI1/SCK1 (io), 49 P25/PO5/TIOCA4/TMCI1/RXD1 (io), 50 P26/PO6/TIOCA5/TMO1/TXD1 (io), 51 P27/PO7/TIOCA5/TIOCB5 (io), 52 NMI (in), 53 PH0/D0 (io), 54 PH1/D1 (io), 55 PH2/D2 (io), 56 PH3/D3 (io), 58 PH4/D4 (io), 59 PH5/D5 (io), 60 PH6/D6 (io), 61 PH7/D7 (io), 63 PI0/D8 (io), 64 PI1/D9 (io), 65 PI2/D10 (io), 66 PI3/D11 (io), 68 PI4/D12 (io), 69 PI5/D13 (io), 70 PI6/D14 (io), 71 PI7/D15 (io), 72 P10/TXD2/~{DREQ0}-A/~{IRQ0}-A (io), 73 P11/RXD2/~{TEND0}-A/~{IRQ1}-A (io), 74 P12/SCK2/~{DACK0}-A/~{IRQ2}-A (io), 75 P13/~{ADTRG0}/~{IRQ3}-A (io), 77 ~{RES} (in), 79 P14/TXD5/IRTXD/~{DREQ1}-A/~{IRQ4}-A/TCLKA-B/SDA1 (io), 80 P15/RXD5/IRRXD/~{TEND1}-A/~{IRQ5}-A/TCLKB-B/SCL1 (io), 81 ~{WDTOVF}/TDO (out), 83 XTAL (in), 84 EXTAL (in), 86 P16/~{DACK1}-A/~{IRQ6}-A/TCLKC-B/SDA0 (io), 87 P17/~{IRQ7}-A/TCLKD-B/SCL0 (io), 88 ~{STBY} (in), 89 P60/TMRI2/TXD4/~{DREQ2}/~{IRQ8}-B (io), 90 P61/TMCI2/RXD4/~{TEND2}/~{IRQ9}-B (io), 91 P62/TMO2/SCK4/~{DACK2}/~{IRQ10}-B/~{TRST} (io), 93 P63/TMRI3/~{DREQ3}/~{IRQ11}-B/TMS (io), 95 P64/TMCI3/~{TEND3}/TDI (io), 96 P65/TMO3/~{DACK3}/TCK (io), 97 MD0 (in), 98 P50/AN0/~{IRQ0}-B (in), 99 P51/AN1/~{IRQ1}-B (in), 100 P52/AN2/~{IRQ2}-B (in), 102 P53/AN3/~{IRQ3}-B (in), 104 P54/AN4/~{IRQ4}-B (in), 105 VREF (in), 106 P55/AN5/~{IRQ5}-B (in), 107 P56/AN6/DA0/~{IRQ6}-B (io), 108 P57/AN7/DA1/~{IRQ7}-B (io), 109 MD1 (in), 110 PA0/~{BREQO}/~{BS}-A (io), 111 PA1/~{BACK}/(RD/~{WR}-A) (io), 112 PA2/~{BREQ}/~{WAIT} (io), 113 PA3/~{LLWR}/~{LLB} (io), 114 PA4/~{LHWR}/~{LUB} (io), 115 PA5/~{RD} (io), 116 PA6/~{AS}/~{AH}/~{BS}-B (io), 118 PA7/BF (io), 120 PB0/~{CS0}/~{CS4}/~{CS5}-B (io)
part B pins: 10 VSS (power), 17 VSS (power), 19 VCC (power), 26 VSS (power), 36 DRVCC (power), 39 DRVSS (power), 42 VSS (power), 44 VCC (power), 57 VSS (power), 62 VCC (power), 67 VSS (power), 76 VSS (power), 78 VCL, 82 VSS (power), 85 VCC (power), 92 PLLVCC (power), 94 PLLVSS (power), 101 AVCC (power), 103 AVSS (power), 117 VSS (power), 119 VCC (power)

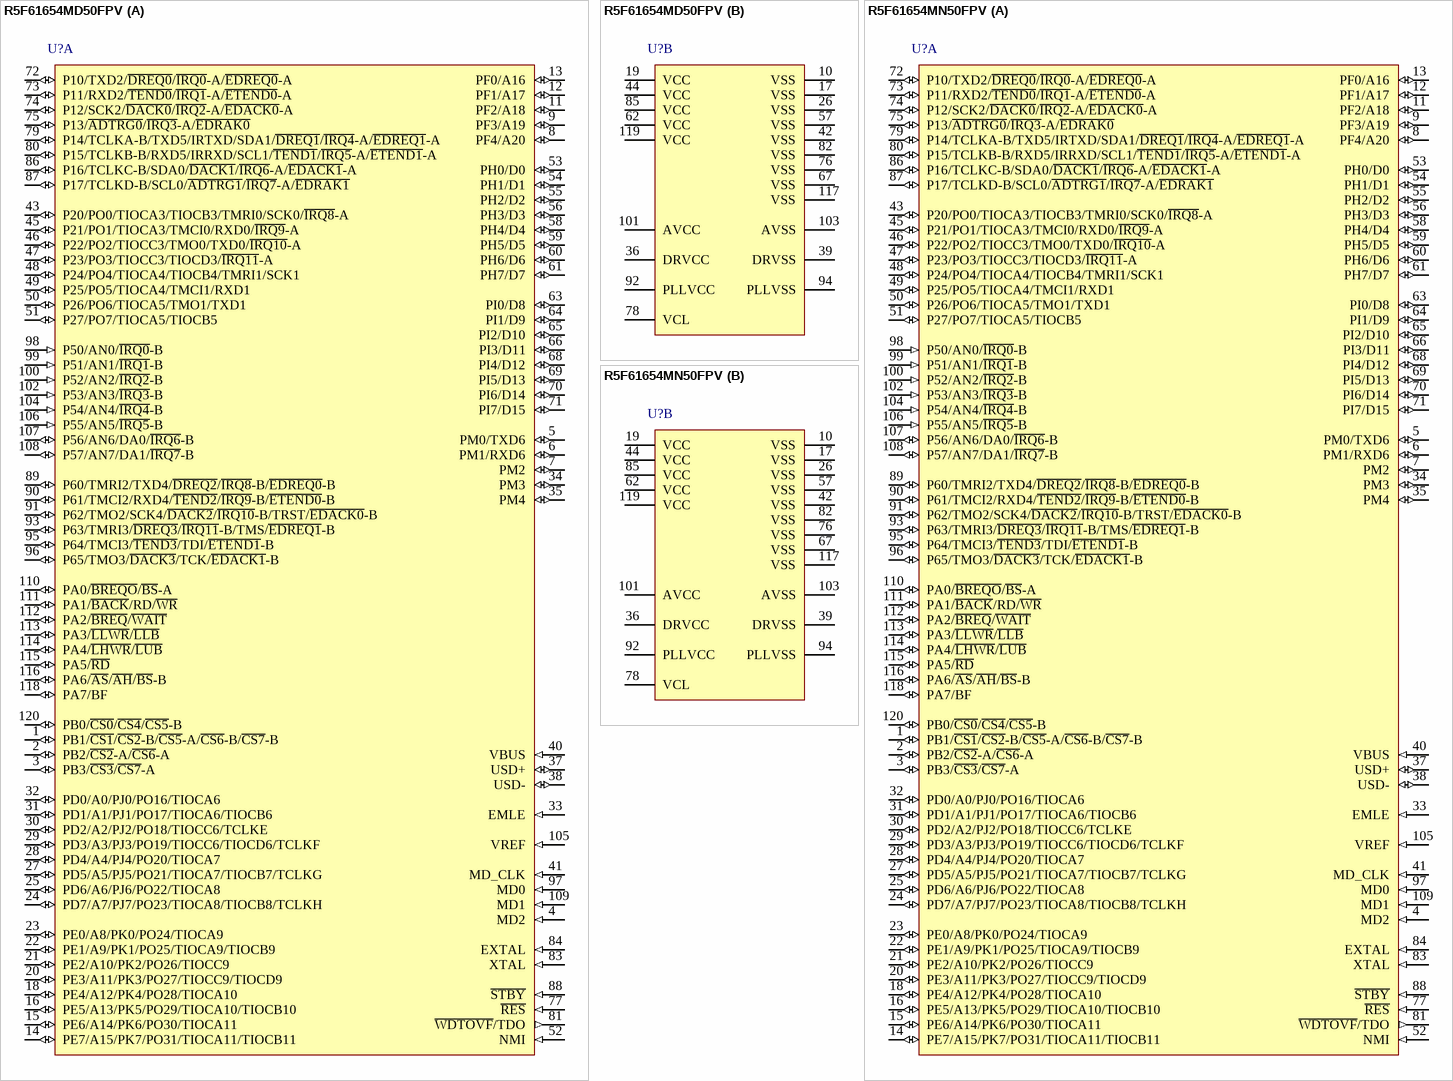
[diagram p52: symbols R5F61654MD50FPV to R5F61654MN50FPV]

## R5F61654MD50FPV
designator U?
Flash memory H8SX/1600 Series, 1658M Group MCU, 512K ROM, 40K RAM, FP-120B Pkg; Published: 28-Aug-2009; DatasheetVersion: Rev.2.00, Sep-2008; PackageVersion: Sep-2005; PackageReference: PLQP0120LA-A; Publisher: Altium Limited; PackageDescription: 120-Pin Plastic Low Profile QFP, 14 x 14 x 1.4 mm Body, 0.4 mm Pitch; Code_JEITA: P-LQFP120-14x14-0.40; ComponentLink1Description: Manufacturer Link; ComponentLink1URL: http://sg.renesas.com/fmwk.jsp?cnt=h8sx_family_landing.jsp&fp=/products/mpumcu/h8sx_family/; ComponentLink2Description: Datasheet; ComponentLink2URL: http://documentation.renesas.com/eng/products/mpumcu/rej09b0413_h8sx1658rhm.pdf; ComponentLink3Description: Packaging Specification; ComponentLink3URL: http://sg.renesas.com/media/products/common_info/package/pdf/ic/code/plqp0120la_a.pdf
footprint PLQP0120LA-A_N (Shrink QFP, 120-Leads, Body 14x14mm, Pitch 0.4mm, IPC Medium Density)
footprint PLQP0120LA-A_L (Shrink QFP, 120-Leads, Body 14x14mm, Pitch 0.4mm, IPC High Density)
footprint PLQP0120LA-A_M (Shrink QFP, 120-Leads, Body 14x14mm, Pitch 0.4mm, IPC Low Density)
part A pins: 1 PB1/~{CS1}/~{CS2}-B/~{CS5}-A/~{CS6}-B/~{CS7}-B (io), 2 PB2/~{CS2}-A/~{CS6}-A (io), 3 PB3/~{CS3}/~{CS7}-A (io), 4 MD2 (in), 5 PM0/TXD6 (io), 6 PM1/RXD6 (io), 7 PM2 (io), 8 PF4/A20 (io), 9 PF3/A19 (io), 11 PF2/A18 (io), 12 PF1/A17 (io), 13 PF0/A16 (io), 14 PE7/A15/PK7/PO31/TIOCA11/TIOCB11 (io), 15 PE6/A14/PK6/PO30/TIOCA11 (io), 16 PE5/A13/PK5/PO29/TIOCA10/TIOCB10 (io), 18 PE4/A12/PK4/PO28/TIOCA10 (io), 20 PE3/A11/PK3/PO27/TIOCC9/TIOCD9 (io), 21 PE2/A10/PK2/PO26/TIOCC9 (io), 22 PE1/A9/PK1/PO25/TIOCA9/TIOCB9 (io), 23 PE0/A8/PK0/PO24/TIOCA9 (io), 24 PD7/A7/PJ7/PO23/TIOCA8/TIOCB8/TCLKH (io), 25 PD6/A6/PJ6/PO22/TIOCA8 (io), 27 PD5/A5/PJ5/PO21/TIOCA7/TIOCB7/TCLKG (io), 28 PD4/A4/PJ4/PO20/TIOCA7 (io), 29 PD3/A3/PJ3/PO19/TIOCC6/TIOCD6/TCLKF (io), 30 PD2/A2/PJ2/PO18/TIOCC6/TCLKE (io), 31 PD1/A1/PJ1/PO17/TIOCA6/TIOCB6 (io), 32 PD0/A0/PJ0/PO16/TIOCA6 (io), 33 EMLE (in), 34 PM3 (io), 35 PM4 (io), 37 USD+ (io), 38 USD- (io), 40 VBUS (in), 41 MD_CLK (in), 43 P20/PO0/TIOCA3/TIOCB3/TMRI0/SCK0/~{IRQ8}-A (io), 45 P21/PO1/TIOCA3/TMCI0/RXD0/~{IRQ9}-A (io), 46 P22/PO2/TIOCC3/TMO0/TXD0/~{IRQ10}-A (io), 47 P23/PO3/TIOCC3/TIOCD3/~{IRQ11}-A (io), 48 P24/PO4/TIOCA4/TIOCB4/TMRI1/SCK1 (io), 49 P25/PO5/TIOCA4/TMCI1/RXD1 (io), 50 P26/PO6/TIOCA5/TMO1/TXD1 (io), 51 P27/PO7/TIOCA5/TIOCB5 (io), 52 NMI (in), 53 PH0/D0 (io), 54 PH1/D1 (io), 55 PH2/D2 (io), 56 PH3/D3 (io), 58 PH4/D4 (io), 59 PH5/D5 (io), 60 PH6/D6 (io), 61 PH7/D7 (io), 63 PI0/D8 (io), 64 PI1/D9 (io), 65 PI2/D10 (io), 66 PI3/D11 (io), 68 PI4/D12 (io), 69 PI5/D13 (io), 70 PI6/D14 (io), 71 PI7/D15 (io), 72 P10/TXD2/~{DREQ0}/~{IRQ0}-A/~{EDREQ0}-A (io), 73 P11/RXD2/~{TEND0}/~{IRQ1}-A/~{ETEND0}-A (io), 74 P12/SCK2/~{DACK0}/~{IRQ2}-A/~{EDACK0}-A (io), 75 P13/~{ADTRG0}/~{IRQ3}-A/~{EDRAK0} (io), 77 ~{RES} (in), 79 P14/TCLKA-B/TXD5/IRTXD/SDA1/~{DREQ1}/~{IRQ4}-A/~{EDREQ1}-A (io), 80 P15/TCLKB-B/RXD5/IRRXD/SCL1/~{TEND1}/~{IRQ5}-A/~{ETEND1}-A (io), 81 ~{WDTOVF}/TDO (out), 83 XTAL (in), 84 EXTAL (in), 86 P16/TCLKC-B/SDA0/~{DACK1}/~{IRQ6}-A/~{EDACK1}-A (io), 87 P17/TCLKD-B/SCL0/~{ADTRG1}/~{IRQ7}-A/~{EDRAK1} (io), 88 ~{STBY} (in), 89 P60/TMRI2/TXD4/~{DREQ2}/~{IRQ8}-B/~{EDREQ0}-B (io), 90 P61/TMCI2/RXD4/~{TEND2}/~{IRQ9}-B/~{ETEND0}-B (io), 91 P62/TMO2/SCK4/~{DACK2}/~{IRQ10}-B/TRST/~{EDACK0}-B (io), 93 P63/TMRI3/~{DREQ3}/~{IRQ11}-B/TMS/~{EDREQ1}-B (io), 95 P64/TMCI3/~{TEND3}/TDI/~{ETEND1}-B (io), 96 P65/TMO3/~{DACK3}/TCK/~{EDACK1}-B (io), 97 MD0 (in), 98 P50/AN0/~{IRQ0}-B (in), 99 P51/AN1/~{IRQ1}-B (in), 100 P52/AN2/~{IRQ2}-B (in), 102 P53/AN3/~{IRQ3}-B (in), 104 P54/AN4/~{IRQ4}-B (in), 105 VREF (in), 106 P55/AN5/~{IRQ5}-B (in), 107 P56/AN6/DA0/~{IRQ6}-B (io), 108 P57/AN7/DA1/~{IRQ7}-B (io), 109 MD1 (in), 110 PA0/~{BREQO}/~{BS}-A (io), 111 PA1/~{BACK}/RD/~{WR} (io), 112 PA2/~{BREQ}/~{WAIT} (io), 113 PA3/~{LLWR}/~{LLB} (io), 114 PA4/~{LHWR}/~{LUB} (io), 115 PA5/~{RD} (io), 116 PA6/~{AS}/~{AH}/~{BS}-B (io), 118 PA7/BF (io), 120 PB0/~{CS0}/~{CS4}/~{CS5}-B (io)
part B pins: 10 VSS (power), 17 VSS (power), 19 VCC (power), 26 VSS (power), 36 DRVCC (power), 39 DRVSS (power), 42 VSS (power), 44 VCC (power), 57 VSS (power), 62 VCC (power), 67 VSS (power), 76 VSS (power), 78 VCL, 82 VSS (power), 85 VCC (power), 92 PLLVCC (power), 94 PLLVSS (power), 101 AVCC (power), 103 AVSS (power), 117 VSS (power), 119 VCC (power)

## R5F61654MN50FPV
designator U?
Flash memory H8SX/1600 Series, 1658M Group MCU, 512K ROM, 40K RAM, FP-120B Pkg; Published: 28-Aug-2009; DatasheetVersion: Rev.2.00, Sep-2008; PackageVersion: Sep-2005; PackageReference: PLQP0120LA-A; Publisher: Altium Limited; PackageDescription: 120-Pin Plastic Low Profile QFP, 14 x 14 x 1.4 mm Body, 0.4 mm Pitch; Code_JEITA: P-LQFP120-14x14-0.40; ComponentLink1Description: Manufacturer Link; ComponentLink1URL: http://sg.renesas.com/fmwk.jsp?cnt=h8sx_family_landing.jsp&fp=/products/mpumcu/h8sx_family/; ComponentLink2Description: Datasheet; ComponentLink2URL: http://documentation.renesas.com/eng/products/mpumcu/rej09b0413_h8sx1658rhm.pdf; ComponentLink3Description: Packaging Specification; ComponentLink3URL: http://sg.renesas.com/media/products/common_info/package/pdf/ic/code/plqp0120la_a.pdf
footprint PLQP0120LA-A_N (Shrink QFP, 120-Leads, Body 14x14mm, Pitch 0.4mm, IPC Medium Density)
footprint PLQP0120LA-A_L (Shrink QFP, 120-Leads, Body 14x14mm, Pitch 0.4mm, IPC High Density)
footprint PLQP0120LA-A_M (Shrink QFP, 120-Leads, Body 14x14mm, Pitch 0.4mm, IPC Low Density)
part A pins: 1 PB1/~{CS1}/~{CS2}-B/~{CS5}-A/~{CS6}-B/~{CS7}-B (io), 2 PB2/~{CS2}-A/~{CS6}-A (io), 3 PB3/~{CS3}/~{CS7}-A (io), 4 MD2 (in), 5 PM0/TXD6 (io), 6 PM1/RXD6 (io), 7 PM2 (io), 8 PF4/A20 (io), 9 PF3/A19 (io), 11 PF2/A18 (io), 12 PF1/A17 (io), 13 PF0/A16 (io), 14 PE7/A15/PK7/PO31/TIOCA11/TIOCB11 (io), 15 PE6/A14/PK6/PO30/TIOCA11 (io), 16 PE5/A13/PK5/PO29/TIOCA10/TIOCB10 (io), 18 PE4/A12/PK4/PO28/TIOCA10 (io), 20 PE3/A11/PK3/PO27/TIOCC9/TIOCD9 (io), 21 PE2/A10/PK2/PO26/TIOCC9 (io), 22 PE1/A9/PK1/PO25/TIOCA9/TIOCB9 (io), 23 PE0/A8/PK0/PO24/TIOCA9 (io), 24 PD7/A7/PJ7/PO23/TIOCA8/TIOCB8/TCLKH (io), 25 PD6/A6/PJ6/PO22/TIOCA8 (io), 27 PD5/A5/PJ5/PO21/TIOCA7/TIOCB7/TCLKG (io), 28 PD4/A4/PJ4/PO20/TIOCA7 (io), 29 PD3/A3/PJ3/PO19/TIOCC6/TIOCD6/TCLKF (io), 30 PD2/A2/PJ2/PO18/TIOCC6/TCLKE (io), 31 PD1/A1/PJ1/PO17/TIOCA6/TIOCB6 (io), 32 PD0/A0/PJ0/PO16/TIOCA6 (io), 33 EMLE (in), 34 PM3 (io), 35 PM4 (io), 37 USD+ (io), 38 USD- (io), 40 VBUS (in), 41 MD_CLK (in), 43 P20/PO0/TIOCA3/TIOCB3/TMRI0/SCK0/~{IRQ8}-A (io), 45 P21/PO1/TIOCA3/TMCI0/RXD0/~{IRQ9}-A (io), 46 P22/PO2/TIOCC3/TMO0/TXD0/~{IRQ10}-A (io), 47 P23/PO3/TIOCC3/TIOCD3/~{IRQ11}-A (io), 48 P24/PO4/TIOCA4/TIOCB4/TMRI1/SCK1 (io), 49 P25/PO5/TIOCA4/TMCI1/RXD1 (io), 50 P26/PO6/TIOCA5/TMO1/TXD1 (io), 51 P27/PO7/TIOCA5/TIOCB5 (io), 52 NMI (in), 53 PH0/D0 (io), 54 PH1/D1 (io), 55 PH2/D2 (io), 56 PH3/D3 (io), 58 PH4/D4 (io), 59 PH5/D5 (io), 60 PH6/D6 (io), 61 PH7/D7 (io), 63 PI0/D8 (io), 64 PI1/D9 (io), 65 PI2/D10 (io), 66 PI3/D11 (io), 68 PI4/D12 (io), 69 PI5/D13 (io), 70 PI6/D14 (io), 71 PI7/D15 (io), 72 P10/TXD2/~{DREQ0}/~{IRQ0}-A/~{EDREQ0}-A (io), 73 P11/RXD2/~{TEND0}/~{IRQ1}-A/~{ETEND0}-A (io), 74 P12/SCK2/~{DACK0}/~{IRQ2}-A/~{EDACK0}-A (io), 75 P13/~{ADTRG0}/~{IRQ3}-A/~{EDRAK0} (io), 77 ~{RES} (in), 79 P14/TCLKA-B/TXD5/IRTXD/SDA1/~{DREQ1}/~{IRQ4}-A/~{EDREQ1}-A (io), 80 P15/TCLKB-B/RXD5/IRRXD/SCL1/~{TEND1}/~{IRQ5}-A/~{ETEND1}-A (io), 81 ~{WDTOVF}/TDO (out), 83 XTAL (in), 84 EXTAL (in), 86 P16/TCLKC-B/SDA0/~{DACK1}/~{IRQ6}-A/~{EDACK1}-A (io), 87 P17/TCLKD-B/SCL0/~{ADTRG1}/~{IRQ7}-A/~{EDRAK1} (io), 88 ~{STBY} (in), 89 P60/TMRI2/TXD4/~{DREQ2}/~{IRQ8}-B/~{EDREQ0}-B (io), 90 P61/TMCI2/RXD4/~{TEND2}/~{IRQ9}-B/~{ETEND0}-B (io), 91 P62/TMO2/SCK4/~{DACK2}/~{IRQ10}-B/TRST/~{EDACK0}-B (io), 93 P63/TMRI3/~{DREQ3}/~{IRQ11}-B/TMS/~{EDREQ1}-B (io), 95 P64/TMCI3/~{TEND3}/TDI/~{ETEND1}-B (io), 96 P65/TMO3/~{DACK3}/TCK/~{EDACK1}-B (io), 97 MD0 (in), 98 P50/AN0/~{IRQ0}-B (in), 99 P51/AN1/~{IRQ1}-B (in), 100 P52/AN2/~{IRQ2}-B (in), 102 P53/AN3/~{IRQ3}-B (in), 104 P54/AN4/~{IRQ4}-B (in), 105 VREF (in), 106 P55/AN5/~{IRQ5}-B (in), 107 P56/AN6/DA0/~{IRQ6}-B (io), 108 P57/AN7/DA1/~{IRQ7}-B (io), 109 MD1 (in), 110 PA0/~{BREQO}/~{BS}-A (io), 111 PA1/~{BACK}/RD/~{WR} (io), 112 PA2/~{BREQ}/~{WAIT} (io), 113 PA3/~{LLWR}/~{LLB} (io), 114 PA4/~{LHWR}/~{LUB} (io), 115 PA5/~{RD} (io), 116 PA6/~{AS}/~{AH}/~{BS}-B (io), 118 PA7/BF (io), 120 PB0/~{CS0}/~{CS4}/~{CS5}-B (io)
part B pins: 10 VSS (power), 17 VSS (power), 19 VCC (power), 26 VSS (power), 36 DRVCC (power), 39 DRVSS (power), 42 VSS (power), 44 VCC (power), 57 VSS (power), 62 VCC (power), 67 VSS (power), 76 VSS (power), 78 VCL, 82 VSS (power), 85 VCC (power), 92 PLLVCC (power), 94 PLLVSS (power), 101 AVCC (power), 103 AVSS (power), 117 VSS (power), 119 VCC (power)

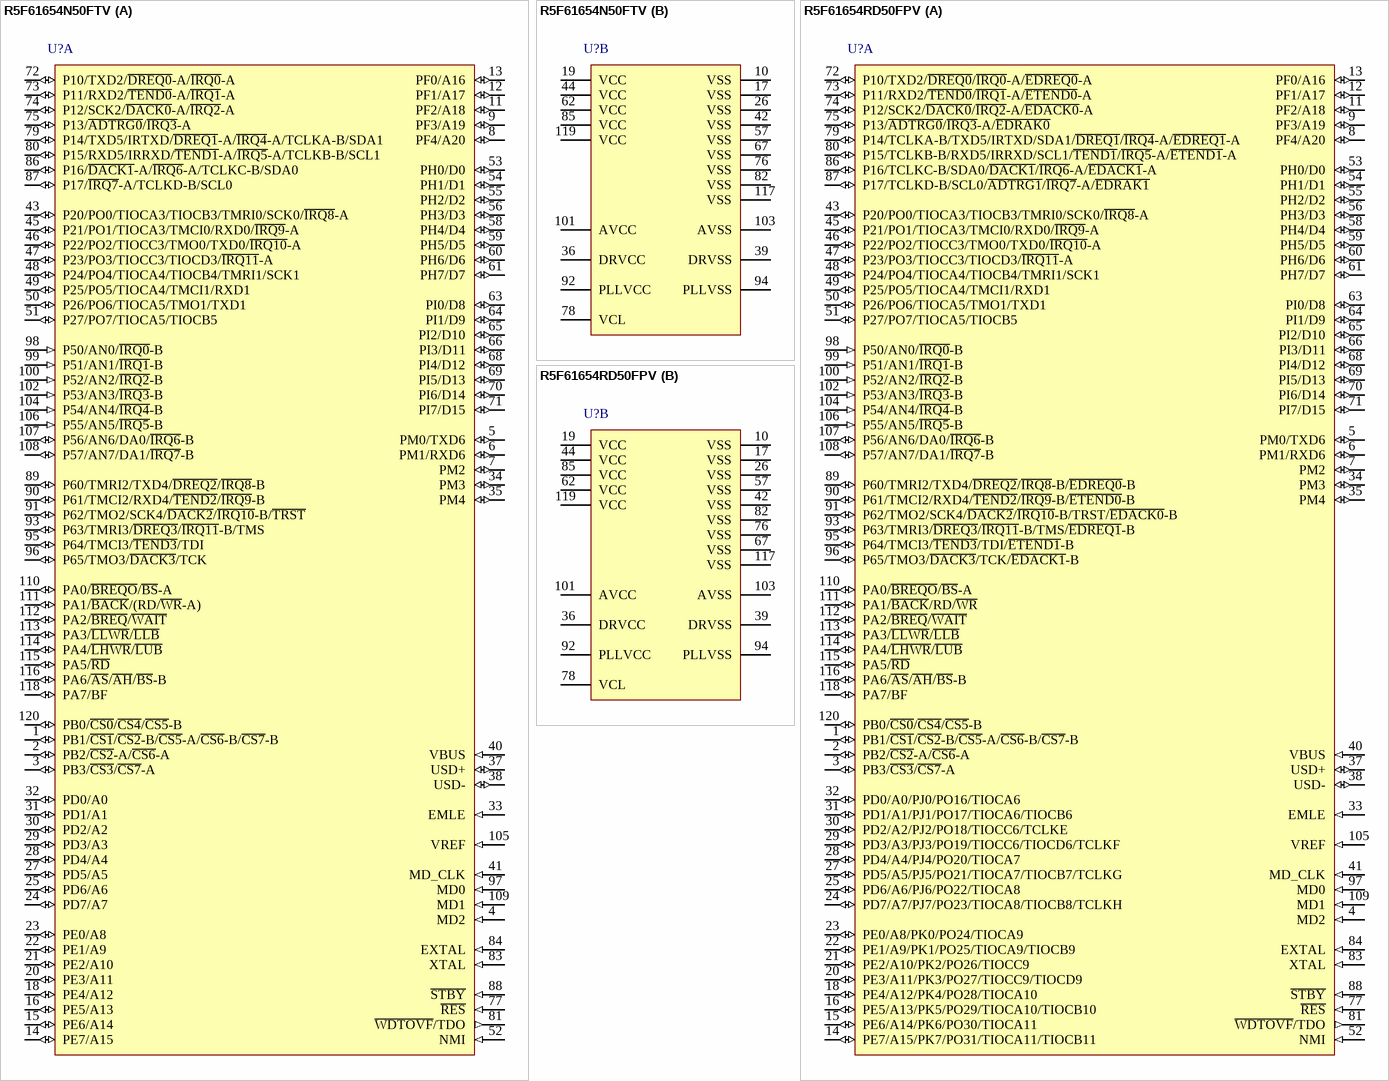
[diagram p53: symbols R5F61654N50FTV to R5F61654RD50FPV]

## R5F61654N50FTV
designator U?
Flash memory H8SX/1600 Series, 1653 Group MCU, 512K ROM, 40K RAM, TFP-120 Pkg; Published: 28-Aug-2009; DatasheetVersion: Rev.1.00, Sep-2005; PackageVersion: Sep-2005; PackageReference: PTQP0120LA-A; Publisher: Altium Limited; PackageDescription: 120-Pin Plastic Thin QFP, 14 x 14 x 1.0 mm Body, 0.4 mm Pitch; Code_JEITA: P-TQFP120-14x14-0.40; ComponentLink1Description: Manufacturer Link; ComponentLink1URL: http://sg.renesas.com/fmwk.jsp?cnt=h8sx_family_landing.jsp&fp=/products/mpumcu/h8sx_family/; ComponentLink2Description: Datasheet; ComponentLink2URL: http://documentation.renesas.com/eng/products/mpumcu/rej09b0219_h8sx1653hm.pdf; ComponentLink3Description: Packaging Specification; ComponentLink3URL: http://sg.renesas.com/media/products/common_info/package/pdf/ic/code/ptqp0120la_a.pdf
footprint PTQP0120LA-A_N (Thin QFP, 120-Leads, Body 14x14mm, Pitch 0.4mm, IPC Medium Density)
footprint PTQP0120LA-A_L (Thin QFP, 120-Leads, Body 14x14mm, Pitch 0.4mm, IPC High Density)
footprint PTQP0120LA-A_M (Thin QFP, 120-Leads, Body 14x14mm, Pitch 0.4mm, IPC Low Density)
part A pins: 1 PB1/~{CS1}/~{CS2}-B/~{CS5}-A/~{CS6}-B/~{CS7}-B (io), 2 PB2/~{CS2}-A/~{CS6}-A (io), 3 PB3/~{CS3}/~{CS7}-A (io), 4 MD2 (in), 5 PM0/TXD6 (io), 6 PM1/RXD6 (io), 7 PM2 (io), 8 PF4/A20 (io), 9 PF3/A19 (io), 11 PF2/A18 (io), 12 PF1/A17 (io), 13 PF0/A16 (io), 14 PE7/A15 (io), 15 PE6/A14 (io), 16 PE5/A13 (io), 18 PE4/A12 (io), 20 PE3/A11 (io), 21 PE2/A10 (io), 22 PE1/A9 (io), 23 PE0/A8 (io), 24 PD7/A7 (io), 25 PD6/A6 (io), 27 PD5/A5 (io), 28 PD4/A4 (io), 29 PD3/A3 (io), 30 PD2/A2 (io), 31 PD1/A1 (io), 32 PD0/A0 (io), 33 EMLE (in), 34 PM3 (io), 35 PM4 (io), 37 USD+ (io), 38 USD- (io), 40 VBUS (in), 41 MD_CLK (in), 43 P20/PO0/TIOCA3/TIOCB3/TMRI0/SCK0/~{IRQ8}-A (io), 45 P21/PO1/TIOCA3/TMCI0/RXD0/~{IRQ9}-A (io), 46 P22/PO2/TIOCC3/TMO0/TXD0/~{IRQ10}-A (io), 47 P23/PO3/TIOCC3/TIOCD3/~{IRQ11}-A (io), 48 P24/PO4/TIOCA4/TIOCB4/TMRI1/SCK1 (io), 49 P25/PO5/TIOCA4/TMCI1/RXD1 (io), 50 P26/PO6/TIOCA5/TMO1/TXD1 (io), 51 P27/PO7/TIOCA5/TIOCB5 (io), 52 NMI (in), 53 PH0/D0 (io), 54 PH1/D1 (io), 55 PH2/D2 (io), 56 PH3/D3 (io), 58 PH4/D4 (io), 59 PH5/D5 (io), 60 PH6/D6 (io), 61 PH7/D7 (io), 63 PI0/D8 (io), 64 PI1/D9 (io), 65 PI2/D10 (io), 66 PI3/D11 (io), 68 PI4/D12 (io), 69 PI5/D13 (io), 70 PI6/D14 (io), 71 PI7/D15 (io), 72 P10/TXD2/~{DREQ0}-A/~{IRQ0}-A (io), 73 P11/RXD2/~{TEND0}-A/~{IRQ1}-A (io), 74 P12/SCK2/~{DACK0}-A/~{IRQ2}-A (io), 75 P13/~{ADTRG0}/~{IRQ3}-A (io), 77 ~{RES} (in), 79 P14/TXD5/IRTXD/~{DREQ1}-A/~{IRQ4}-A/TCLKA-B/SDA1 (io), 80 P15/RXD5/IRRXD/~{TEND1}-A/~{IRQ5}-A/TCLKB-B/SCL1 (io), 81 ~{WDTOVF}/TDO (out), 83 XTAL (in), 84 EXTAL (in), 86 P16/~{DACK1}-A/~{IRQ6}-A/TCLKC-B/SDA0 (io), 87 P17/~{IRQ7}-A/TCLKD-B/SCL0 (io), 88 ~{STBY} (in), 89 P60/TMRI2/TXD4/~{DREQ2}/~{IRQ8}-B (io), 90 P61/TMCI2/RXD4/~{TEND2}/~{IRQ9}-B (io), 91 P62/TMO2/SCK4/~{DACK2}/~{IRQ10}-B/~{TRST} (io), 93 P63/TMRI3/~{DREQ3}/~{IRQ11}-B/TMS (io), 95 P64/TMCI3/~{TEND3}/TDI (io), 96 P65/TMO3/~{DACK3}/TCK (io), 97 MD0 (in), 98 P50/AN0/~{IRQ0}-B (in), 99 P51/AN1/~{IRQ1}-B (in), 100 P52/AN2/~{IRQ2}-B (in), 102 P53/AN3/~{IRQ3}-B (in), 104 P54/AN4/~{IRQ4}-B (in), 105 VREF (in), 106 P55/AN5/~{IRQ5}-B (in), 107 P56/AN6/DA0/~{IRQ6}-B (io), 108 P57/AN7/DA1/~{IRQ7}-B (io), 109 MD1 (in), 110 PA0/~{BREQO}/~{BS}-A (io), 111 PA1/~{BACK}/(RD/~{WR}-A) (io), 112 PA2/~{BREQ}/~{WAIT} (io), 113 PA3/~{LLWR}/~{LLB} (io), 114 PA4/~{LHWR}/~{LUB} (io), 115 PA5/~{RD} (io), 116 PA6/~{AS}/~{AH}/~{BS}-B (io), 118 PA7/BF (io), 120 PB0/~{CS0}/~{CS4}/~{CS5}-B (io)
part B pins: 10 VSS (power), 17 VSS (power), 19 VCC (power), 26 VSS (power), 36 DRVCC (power), 39 DRVSS (power), 42 VSS (power), 44 VCC (power), 57 VSS (power), 62 VCC (power), 67 VSS (power), 76 VSS (power), 78 VCL, 82 VSS (power), 85 VCC (power), 92 PLLVCC (power), 94 PLLVSS (power), 101 AVCC (power), 103 AVSS (power), 117 VSS (power), 119 VCC (power)

## R5F61654RD50FPV
designator U?
Flash memory H8SX/1600 Series, 1658R Group MCU, 512K ROM, 40K RAM, FP-120B Pkg; Published: 28-Aug-2009; DatasheetVersion: Rev.2.00, Sep-2008; PackageVersion: Sep-2005; PackageReference: PLQP0120LA-A; Publisher: Altium Limited; PackageDescription: 120-Pin Plastic Low Profile QFP, 14 x 14 x 1.4 mm Body, 0.4 mm Pitch; Code_JEITA: P-LQFP120-14x14-0.40; ComponentLink1Description: Manufacturer Link; ComponentLink1URL: http://sg.renesas.com/fmwk.jsp?cnt=h8sx_family_landing.jsp&fp=/products/mpumcu/h8sx_family/; ComponentLink2Description: Datasheet; ComponentLink2URL: http://documentation.renesas.com/eng/products/mpumcu/rej09b0413_h8sx1658rhm.pdf; ComponentLink3Description: Packaging Specification; ComponentLink3URL: http://sg.renesas.com/media/products/common_info/package/pdf/ic/code/plqp0120la_a.pdf
footprint PLQP0120LA-A_N (Shrink QFP, 120-Leads, Body 14x14mm, Pitch 0.4mm, IPC Medium Density)
footprint PLQP0120LA-A_L (Shrink QFP, 120-Leads, Body 14x14mm, Pitch 0.4mm, IPC High Density)
footprint PLQP0120LA-A_M (Shrink QFP, 120-Leads, Body 14x14mm, Pitch 0.4mm, IPC Low Density)
part A pins: 1 PB1/~{CS1}/~{CS2}-B/~{CS5}-A/~{CS6}-B/~{CS7}-B (io), 2 PB2/~{CS2}-A/~{CS6}-A (io), 3 PB3/~{CS3}/~{CS7}-A (io), 4 MD2 (in), 5 PM0/TXD6 (io), 6 PM1/RXD6 (io), 7 PM2 (io), 8 PF4/A20 (io), 9 PF3/A19 (io), 11 PF2/A18 (io), 12 PF1/A17 (io), 13 PF0/A16 (io), 14 PE7/A15/PK7/PO31/TIOCA11/TIOCB11 (io), 15 PE6/A14/PK6/PO30/TIOCA11 (io), 16 PE5/A13/PK5/PO29/TIOCA10/TIOCB10 (io), 18 PE4/A12/PK4/PO28/TIOCA10 (io), 20 PE3/A11/PK3/PO27/TIOCC9/TIOCD9 (io), 21 PE2/A10/PK2/PO26/TIOCC9 (io), 22 PE1/A9/PK1/PO25/TIOCA9/TIOCB9 (io), 23 PE0/A8/PK0/PO24/TIOCA9 (io), 24 PD7/A7/PJ7/PO23/TIOCA8/TIOCB8/TCLKH (io), 25 PD6/A6/PJ6/PO22/TIOCA8 (io), 27 PD5/A5/PJ5/PO21/TIOCA7/TIOCB7/TCLKG (io), 28 PD4/A4/PJ4/PO20/TIOCA7 (io), 29 PD3/A3/PJ3/PO19/TIOCC6/TIOCD6/TCLKF (io), 30 PD2/A2/PJ2/PO18/TIOCC6/TCLKE (io), 31 PD1/A1/PJ1/PO17/TIOCA6/TIOCB6 (io), 32 PD0/A0/PJ0/PO16/TIOCA6 (io), 33 EMLE (in), 34 PM3 (io), 35 PM4 (io), 37 USD+ (io), 38 USD- (io), 40 VBUS (in), 41 MD_CLK (in), 43 P20/PO0/TIOCA3/TIOCB3/TMRI0/SCK0/~{IRQ8}-A (io), 45 P21/PO1/TIOCA3/TMCI0/RXD0/~{IRQ9}-A (io), 46 P22/PO2/TIOCC3/TMO0/TXD0/~{IRQ10}-A (io), 47 P23/PO3/TIOCC3/TIOCD3/~{IRQ11}-A (io), 48 P24/PO4/TIOCA4/TIOCB4/TMRI1/SCK1 (io), 49 P25/PO5/TIOCA4/TMCI1/RXD1 (io), 50 P26/PO6/TIOCA5/TMO1/TXD1 (io), 51 P27/PO7/TIOCA5/TIOCB5 (io), 52 NMI (in), 53 PH0/D0 (io), 54 PH1/D1 (io), 55 PH2/D2 (io), 56 PH3/D3 (io), 58 PH4/D4 (io), 59 PH5/D5 (io), 60 PH6/D6 (io), 61 PH7/D7 (io), 63 PI0/D8 (io), 64 PI1/D9 (io), 65 PI2/D10 (io), 66 PI3/D11 (io), 68 PI4/D12 (io), 69 PI5/D13 (io), 70 PI6/D14 (io), 71 PI7/D15 (io), 72 P10/TXD2/~{DREQ0}/~{IRQ0}-A/~{EDREQ0}-A (io), 73 P11/RXD2/~{TEND0}/~{IRQ1}-A/~{ETEND0}-A (io), 74 P12/SCK2/~{DACK0}/~{IRQ2}-A/~{EDACK0}-A (io), 75 P13/~{ADTRG0}/~{IRQ3}-A/~{EDRAK0} (io), 77 ~{RES} (in), 79 P14/TCLKA-B/TXD5/IRTXD/SDA1/~{DREQ1}/~{IRQ4}-A/~{EDREQ1}-A (io), 80 P15/TCLKB-B/RXD5/IRRXD/SCL1/~{TEND1}/~{IRQ5}-A/~{ETEND1}-A (io), 81 ~{WDTOVF}/TDO (out), 83 XTAL (in), 84 EXTAL (in), 86 P16/TCLKC-B/SDA0/~{DACK1}/~{IRQ6}-A/~{EDACK1}-A (io), 87 P17/TCLKD-B/SCL0/~{ADTRG1}/~{IRQ7}-A/~{EDRAK1} (io), 88 ~{STBY} (in), 89 P60/TMRI2/TXD4/~{DREQ2}/~{IRQ8}-B/~{EDREQ0}-B (io), 90 P61/TMCI2/RXD4/~{TEND2}/~{IRQ9}-B/~{ETEND0}-B (io), 91 P62/TMO2/SCK4/~{DACK2}/~{IRQ10}-B/TRST/~{EDACK0}-B (io), 93 P63/TMRI3/~{DREQ3}/~{IRQ11}-B/TMS/~{EDREQ1}-B (io), 95 P64/TMCI3/~{TEND3}/TDI/~{ETEND1}-B (io), 96 P65/TMO3/~{DACK3}/TCK/~{EDACK1}-B (io), 97 MD0 (in), 98 P50/AN0/~{IRQ0}-B (in), 99 P51/AN1/~{IRQ1}-B (in), 100 P52/AN2/~{IRQ2}-B (in), 102 P53/AN3/~{IRQ3}-B (in), 104 P54/AN4/~{IRQ4}-B (in), 105 VREF (in), 106 P55/AN5/~{IRQ5}-B (in), 107 P56/AN6/DA0/~{IRQ6}-B (io), 108 P57/AN7/DA1/~{IRQ7}-B (io), 109 MD1 (in), 110 PA0/~{BREQO}/~{BS}-A (io), 111 PA1/~{BACK}/RD/~{WR} (io), 112 PA2/~{BREQ}/~{WAIT} (io), 113 PA3/~{LLWR}/~{LLB} (io), 114 PA4/~{LHWR}/~{LUB} (io), 115 PA5/~{RD} (io), 116 PA6/~{AS}/~{AH}/~{BS}-B (io), 118 PA7/BF (io), 120 PB0/~{CS0}/~{CS4}/~{CS5}-B (io)
part B pins: 10 VSS (power), 17 VSS (power), 19 VCC (power), 26 VSS (power), 36 DRVCC (power), 39 DRVSS (power), 42 VSS (power), 44 VCC (power), 57 VSS (power), 62 VCC (power), 67 VSS (power), 76 VSS (power), 78 VCL, 82 VSS (power), 85 VCC (power), 92 PLLVCC (power), 94 PLLVSS (power), 101 AVCC (power), 103 AVSS (power), 117 VSS (power), 119 VCC (power)

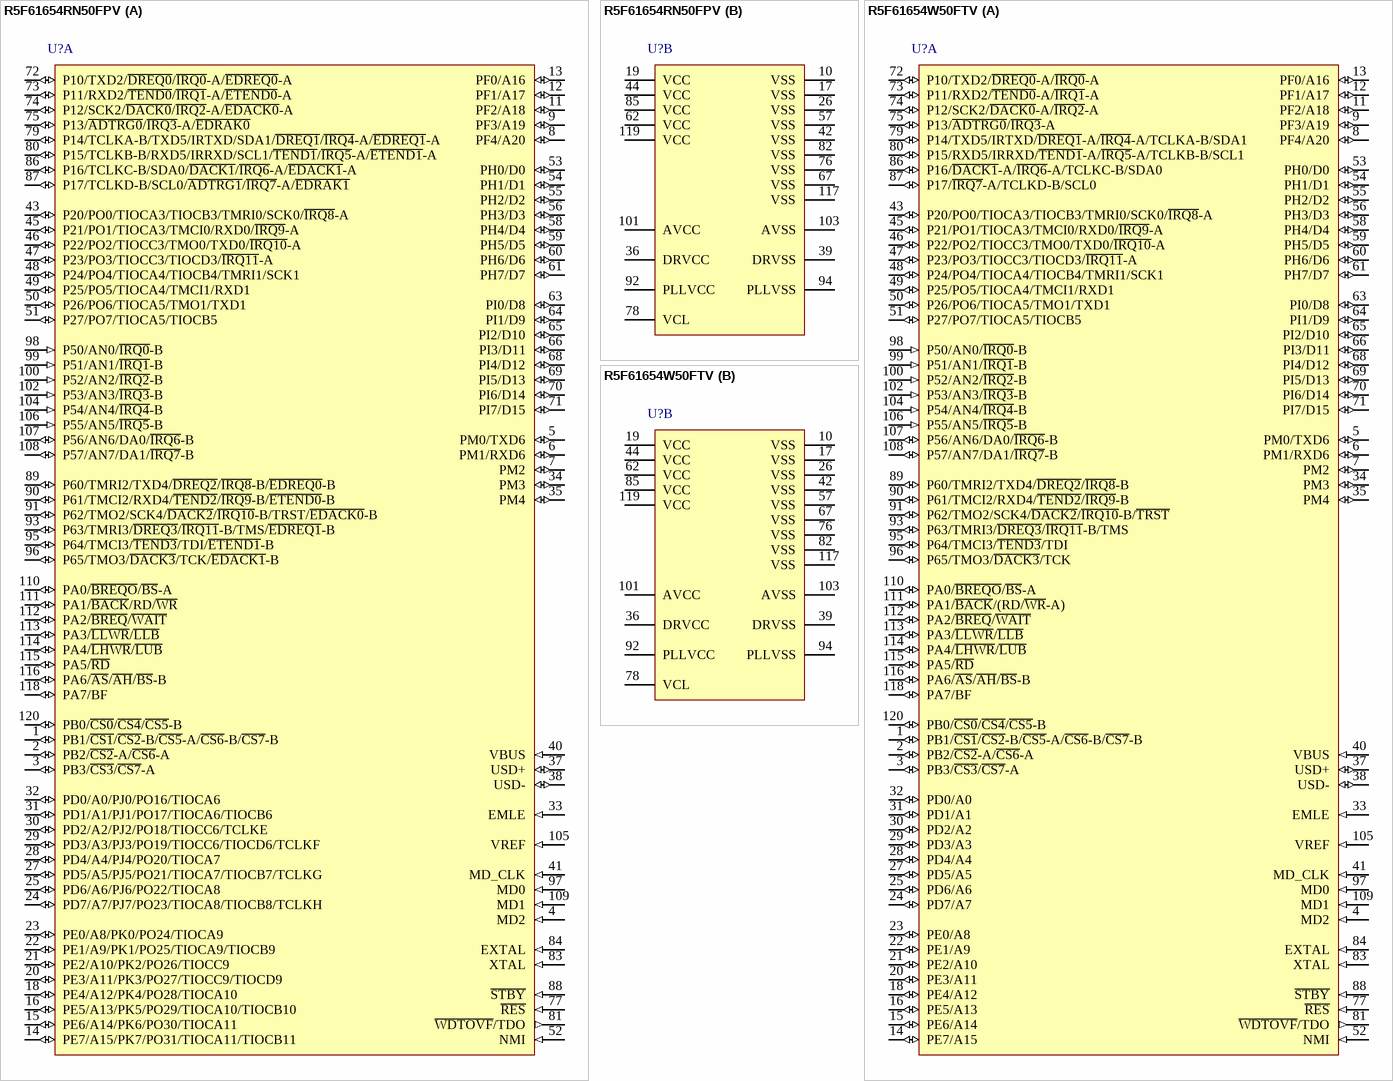
[diagram p54: symbols R5F61654RN50FPV to R5F61654W50FTV]

## R5F61654RN50FPV
designator U?
Flash memory H8SX/1600 Series, 1658R Group MCU, 512K ROM, 40K RAM, FP-120B Pkg; Published: 28-Aug-2009; DatasheetVersion: Rev.2.00, Sep-2008; PackageVersion: Sep-2005; PackageReference: PLQP0120LA-A; Publisher: Altium Limited; PackageDescription: 120-Pin Plastic Low Profile QFP, 14 x 14 x 1.4 mm Body, 0.4 mm Pitch; Code_JEITA: P-LQFP120-14x14-0.40; ComponentLink1Description: Manufacturer Link; ComponentLink1URL: http://sg.renesas.com/fmwk.jsp?cnt=h8sx_family_landing.jsp&fp=/products/mpumcu/h8sx_family/; ComponentLink2Description: Datasheet; ComponentLink2URL: http://documentation.renesas.com/eng/products/mpumcu/rej09b0413_h8sx1658rhm.pdf; ComponentLink3Description: Packaging Specification; ComponentLink3URL: http://sg.renesas.com/media/products/common_info/package/pdf/ic/code/plqp0120la_a.pdf
footprint PLQP0120LA-A_N (Shrink QFP, 120-Leads, Body 14x14mm, Pitch 0.4mm, IPC Medium Density)
footprint PLQP0120LA-A_L (Shrink QFP, 120-Leads, Body 14x14mm, Pitch 0.4mm, IPC High Density)
footprint PLQP0120LA-A_M (Shrink QFP, 120-Leads, Body 14x14mm, Pitch 0.4mm, IPC Low Density)
part A pins: 1 PB1/~{CS1}/~{CS2}-B/~{CS5}-A/~{CS6}-B/~{CS7}-B (io), 2 PB2/~{CS2}-A/~{CS6}-A (io), 3 PB3/~{CS3}/~{CS7}-A (io), 4 MD2 (in), 5 PM0/TXD6 (io), 6 PM1/RXD6 (io), 7 PM2 (io), 8 PF4/A20 (io), 9 PF3/A19 (io), 11 PF2/A18 (io), 12 PF1/A17 (io), 13 PF0/A16 (io), 14 PE7/A15/PK7/PO31/TIOCA11/TIOCB11 (io), 15 PE6/A14/PK6/PO30/TIOCA11 (io), 16 PE5/A13/PK5/PO29/TIOCA10/TIOCB10 (io), 18 PE4/A12/PK4/PO28/TIOCA10 (io), 20 PE3/A11/PK3/PO27/TIOCC9/TIOCD9 (io), 21 PE2/A10/PK2/PO26/TIOCC9 (io), 22 PE1/A9/PK1/PO25/TIOCA9/TIOCB9 (io), 23 PE0/A8/PK0/PO24/TIOCA9 (io), 24 PD7/A7/PJ7/PO23/TIOCA8/TIOCB8/TCLKH (io), 25 PD6/A6/PJ6/PO22/TIOCA8 (io), 27 PD5/A5/PJ5/PO21/TIOCA7/TIOCB7/TCLKG (io), 28 PD4/A4/PJ4/PO20/TIOCA7 (io), 29 PD3/A3/PJ3/PO19/TIOCC6/TIOCD6/TCLKF (io), 30 PD2/A2/PJ2/PO18/TIOCC6/TCLKE (io), 31 PD1/A1/PJ1/PO17/TIOCA6/TIOCB6 (io), 32 PD0/A0/PJ0/PO16/TIOCA6 (io), 33 EMLE (in), 34 PM3 (io), 35 PM4 (io), 37 USD+ (io), 38 USD- (io), 40 VBUS (in), 41 MD_CLK (in), 43 P20/PO0/TIOCA3/TIOCB3/TMRI0/SCK0/~{IRQ8}-A (io), 45 P21/PO1/TIOCA3/TMCI0/RXD0/~{IRQ9}-A (io), 46 P22/PO2/TIOCC3/TMO0/TXD0/~{IRQ10}-A (io), 47 P23/PO3/TIOCC3/TIOCD3/~{IRQ11}-A (io), 48 P24/PO4/TIOCA4/TIOCB4/TMRI1/SCK1 (io), 49 P25/PO5/TIOCA4/TMCI1/RXD1 (io), 50 P26/PO6/TIOCA5/TMO1/TXD1 (io), 51 P27/PO7/TIOCA5/TIOCB5 (io), 52 NMI (in), 53 PH0/D0 (io), 54 PH1/D1 (io), 55 PH2/D2 (io), 56 PH3/D3 (io), 58 PH4/D4 (io), 59 PH5/D5 (io), 60 PH6/D6 (io), 61 PH7/D7 (io), 63 PI0/D8 (io), 64 PI1/D9 (io), 65 PI2/D10 (io), 66 PI3/D11 (io), 68 PI4/D12 (io), 69 PI5/D13 (io), 70 PI6/D14 (io), 71 PI7/D15 (io), 72 P10/TXD2/~{DREQ0}/~{IRQ0}-A/~{EDREQ0}-A (io), 73 P11/RXD2/~{TEND0}/~{IRQ1}-A/~{ETEND0}-A (io), 74 P12/SCK2/~{DACK0}/~{IRQ2}-A/~{EDACK0}-A (io), 75 P13/~{ADTRG0}/~{IRQ3}-A/~{EDRAK0} (io), 77 ~{RES} (in), 79 P14/TCLKA-B/TXD5/IRTXD/SDA1/~{DREQ1}/~{IRQ4}-A/~{EDREQ1}-A (io), 80 P15/TCLKB-B/RXD5/IRRXD/SCL1/~{TEND1}/~{IRQ5}-A/~{ETEND1}-A (io), 81 ~{WDTOVF}/TDO (out), 83 XTAL (in), 84 EXTAL (in), 86 P16/TCLKC-B/SDA0/~{DACK1}/~{IRQ6}-A/~{EDACK1}-A (io), 87 P17/TCLKD-B/SCL0/~{ADTRG1}/~{IRQ7}-A/~{EDRAK1} (io), 88 ~{STBY} (in), 89 P60/TMRI2/TXD4/~{DREQ2}/~{IRQ8}-B/~{EDREQ0}-B (io), 90 P61/TMCI2/RXD4/~{TEND2}/~{IRQ9}-B/~{ETEND0}-B (io), 91 P62/TMO2/SCK4/~{DACK2}/~{IRQ10}-B/TRST/~{EDACK0}-B (io), 93 P63/TMRI3/~{DREQ3}/~{IRQ11}-B/TMS/~{EDREQ1}-B (io), 95 P64/TMCI3/~{TEND3}/TDI/~{ETEND1}-B (io), 96 P65/TMO3/~{DACK3}/TCK/~{EDACK1}-B (io), 97 MD0 (in), 98 P50/AN0/~{IRQ0}-B (in), 99 P51/AN1/~{IRQ1}-B (in), 100 P52/AN2/~{IRQ2}-B (in), 102 P53/AN3/~{IRQ3}-B (in), 104 P54/AN4/~{IRQ4}-B (in), 105 VREF (in), 106 P55/AN5/~{IRQ5}-B (in), 107 P56/AN6/DA0/~{IRQ6}-B (io), 108 P57/AN7/DA1/~{IRQ7}-B (io), 109 MD1 (in), 110 PA0/~{BREQO}/~{BS}-A (io), 111 PA1/~{BACK}/RD/~{WR} (io), 112 PA2/~{BREQ}/~{WAIT} (io), 113 PA3/~{LLWR}/~{LLB} (io), 114 PA4/~{LHWR}/~{LUB} (io), 115 PA5/~{RD} (io), 116 PA6/~{AS}/~{AH}/~{BS}-B (io), 118 PA7/BF (io), 120 PB0/~{CS0}/~{CS4}/~{CS5}-B (io)
part B pins: 10 VSS (power), 17 VSS (power), 19 VCC (power), 26 VSS (power), 36 DRVCC (power), 39 DRVSS (power), 42 VSS (power), 44 VCC (power), 57 VSS (power), 62 VCC (power), 67 VSS (power), 76 VSS (power), 78 VCL, 82 VSS (power), 85 VCC (power), 92 PLLVCC (power), 94 PLLVSS (power), 101 AVCC (power), 103 AVSS (power), 117 VSS (power), 119 VCC (power)